# Altium schematic symbol library linear.SCHLIB: 656 symbols (part 1 of 3)
Pins are listed as number, name and electrical type; pins without a type are passive.

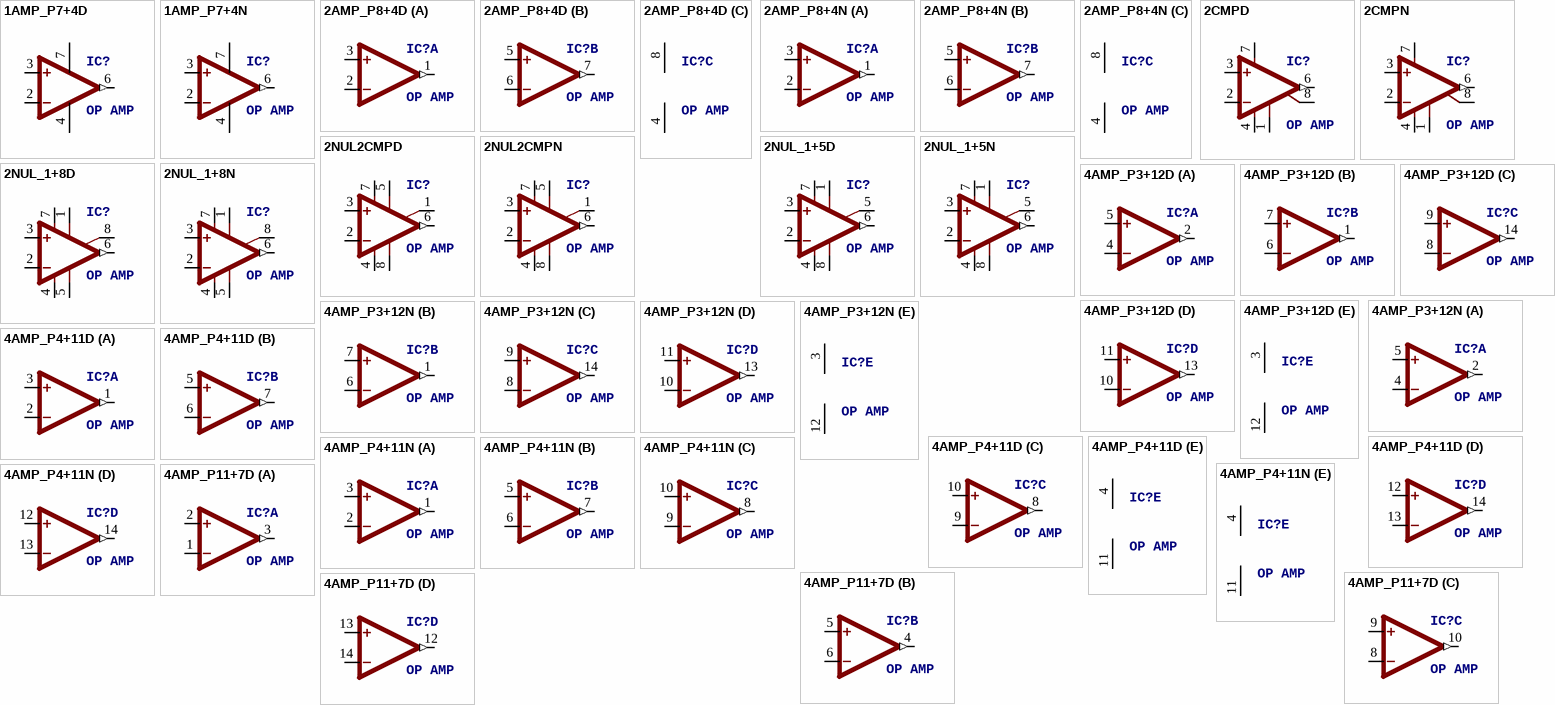
[diagram p0: symbols 1AMP_P7+4D to 4AMP_P11+7D]

## 1AMP_P7+4D
designator IC?, comment OP AMP
footprint SO08
pins: 2 -IN, 3 +IN, 4 V- (power), 6 OUT (out), 7 V+ (power)

## 1AMP_P7+4N
designator IC?, comment OP AMP
footprint DIL08
pins: 2 -IN, 3 +IN, 4 V- (power), 6 OUT (out), 7 V+ (power)

## 2AMP_P8+4D
designator IC?, comment OP AMP
footprint SO08
part A pins: 1 OUT (out), 2 -IN, 3 +IN
part B pins: 5 +IN, 6 -IN, 7 OUT (out)
part C pins: 4 V- (power), 8 V+ (power)

## 2AMP_P8+4N
designator IC?, comment OP AMP
footprint DIL08
part A pins: 1 OUT (out), 2 -IN, 3 +IN
part B pins: 5 +IN, 6 -IN, 7 OUT (out)
part C pins: 4 V- (power), 8 V+ (power)

## 2CMPD
designator IC?, comment OP AMP
footprint SO08
pins: 1 CMP1, 2 -IN, 3 +IN, 4 V- (power), 6 OUT (out), 7 V+ (power), 8 CMP2

## 2CMPN
designator IC?, comment OP AMP
footprint DIL08
pins: 1 CMP1, 2 -IN, 3 +IN, 4 V- (power), 6 OUT (out), 7 V+ (power), 8 CMP2

## 2NUL2CMPD
designator IC?, comment OP AMP
footprint SO08
pins: 1 ON/CMP, 2 -IN, 3 +IN, 4 V- (power), 5 ON, 6 OUT (out), 7 V+ (power), 8 CMP

## 2NUL2CMPN
designator IC?, comment OP AMP
footprint DIL08
pins: 1 ON/CMP, 2 -IN, 3 +IN, 4 V- (power), 5 ON, 6 OUT (out), 7 V+ (power), 8 CMP

## 2NUL_1+5D
designator IC?, comment OP AMP
footprint SO08
pins: 1 ON1, 2 -IN, 3 +IN, 4 V- (power), 5 ON2, 6 OUT (out), 7 V+ (power), 8 OPT

## 2NUL_1+5N
designator IC?, comment OP AMP
footprint DIL08
pins: 1 ON1, 2 -IN, 3 +IN, 4 V- (power), 5 ON2, 6 OUT (out), 7 V+ (power), 8 OPT

## 2NUL_1+8D
designator IC?, comment OP AMP
footprint SO08
pins: 1 ON1, 2 -IN, 3 +IN, 4 V- (power), 5 OPT, 6 OUT (out), 7 V+ (power), 8 ON2

## 2NUL_1+8N
designator IC?, comment OP AMP
footprint DIL08
pins: 1 ON1, 2 -IN, 3 +IN, 4 V- (power), 5 OPT, 6 OUT (out), 7 V+ (power), 8 ON2

## 4AMP_P3+12D
designator IC?, comment OP AMP
footprint SO14
part A pins: 2 OUT (out), 4 -IN, 5 +IN
part B pins: 1 OUT (out), 6 -IN, 7 +IN
part C pins: 8 -IN, 9 +IN, 14 OUT (out)
part D pins: 10 -IN, 11 +IN, 13 OUT (out)
part E pins: 3 V+ (power), 12 V- (power)

## 4AMP_P3+12N
designator IC?, comment OP AMP
footprint DIL14
part A pins: 2 OUT (out), 4 -IN, 5 +IN
part B pins: 1 OUT (out), 6 -IN, 7 +IN
part C pins: 8 -IN, 9 +IN, 14 OUT (out)
part D pins: 10 -IN, 11 +IN, 13 OUT (out)
part E pins: 3 V+ (power), 12 V- (power)

## 4AMP_P4+11D
designator IC?, comment OP AMP
footprint SO14
part A pins: 1 OUT (out), 2 -IN, 3 +IN
part B pins: 5 +IN, 6 -IN, 7 OUT (out)
part C pins: 8 OUT (out), 9 -IN, 10 +IN
part D pins: 12 +IN, 13 -IN, 14 OUT (out)
part E pins: 4 V+ (power), 11 V- (power)

## 4AMP_P4+11N
designator IC?, comment OP AMP
footprint DIL14
part A pins: 1 OUT (out), 2 -IN, 3 +IN
part B pins: 5 +IN, 6 -IN, 7 OUT (out)
part C pins: 8 OUT (out), 9 -IN, 10 +IN
part D pins: 12 +IN, 13 -IN, 14 OUT (out)
part E pins: 4 V+ (power), 11 V- (power)

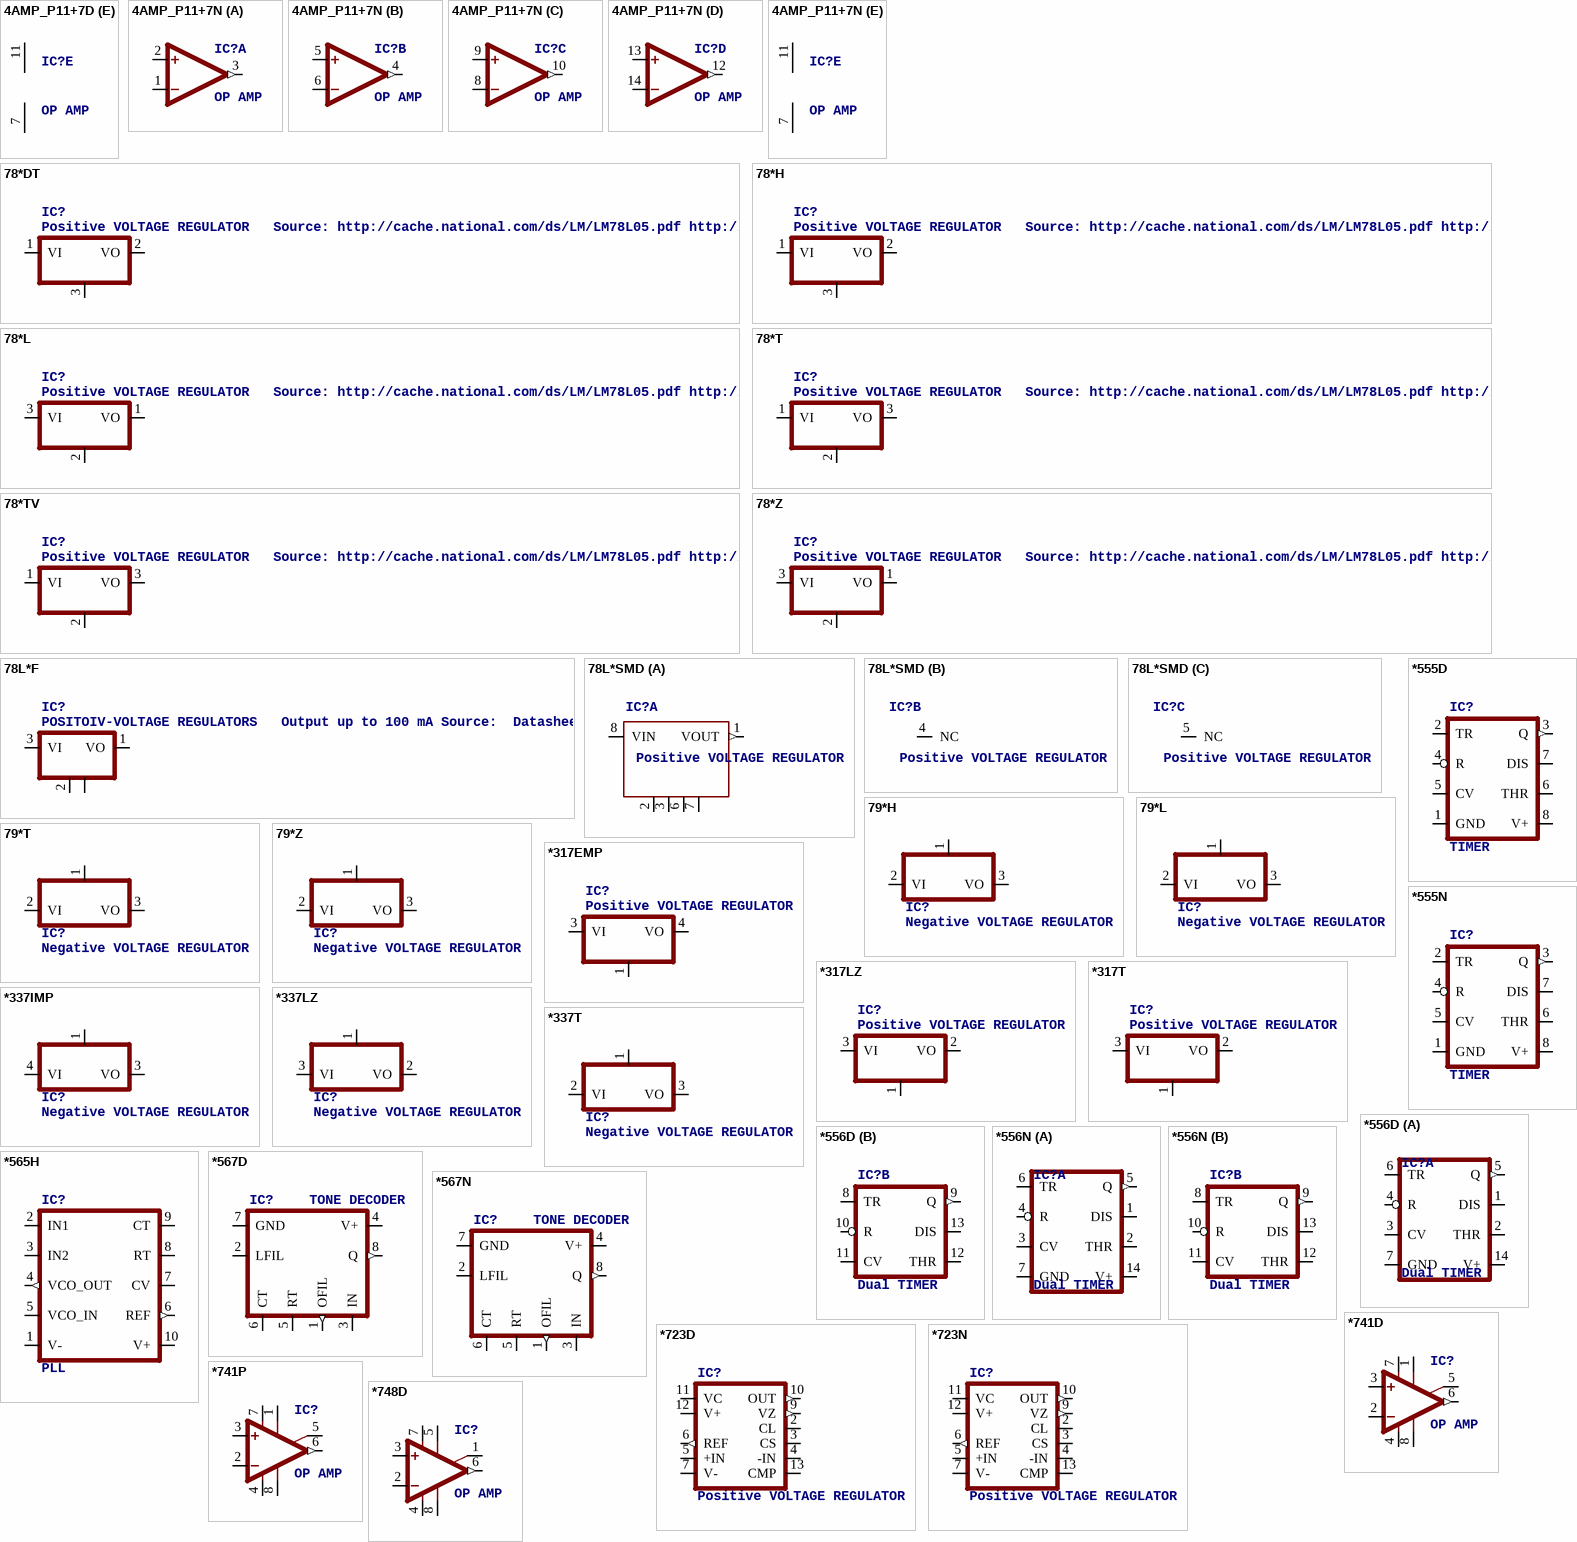
[diagram p1: symbols 4AMP_P11+7D to *748D]

## 4AMP_P11+7D
designator IC?, comment OP AMP
footprint SO14
part A pins: 1 -IN, 2 +IN, 3 OUT (out)
part B pins: 4 OUT (out), 5 +IN, 6 -IN
part C pins: 8 -IN, 9 +IN, 10 OUT (out)
part D pins: 12 OUT (out), 13 +IN, 14 -IN
part E pins: 7 V- (power), 11 V+ (power)

## 4AMP_P11+7N
designator IC?, comment OP AMP
footprint DIL14
part A pins: 1 -IN, 2 +IN, 3 OUT (out)
part B pins: 4 OUT (out), 5 +IN, 6 -IN
part C pins: 8 -IN, 9 +IN, 10 OUT (out)
part D pins: 12 OUT (out), 13 +IN, 14 -IN
part E pins: 7 V- (power), 11 V+ (power)

## 78*DT
designator IC?, comment Positive VOLTAGE REGULATOR   Source: http://cache.national.com/ds/LM/LM78L05.pdf http://www.fairchildsemi.com/ds/LM/LM7805.pdf
footprint TO252
pins: 1 VI, 2 VO, 3 GND

## 78*H
designator IC?, comment Positive VOLTAGE REGULATOR   Source: http://cache.national.com/ds/LM/LM78L05.pdf http://www.fairchildsemi.com/ds/LM/LM7805.pdf
footprint TO39
pins: 1 VI, 2 VO, 3 GND

## 78*L
designator IC?, comment Positive VOLTAGE REGULATOR   Source: http://cache.national.com/ds/LM/LM78L05.pdf http://www.fairchildsemi.com/ds/LM/LM7805.pdf
footprint TO92
pins: 1 VO, 2 GND, 3 VI

## 78*T
designator IC?, comment Positive VOLTAGE REGULATOR   Source: http://cache.national.com/ds/LM/LM78L05.pdf http://www.fairchildsemi.com/ds/LM/LM7805.pdf
footprint TO220H
pins: 1 VI, 2 GND, 3 VO

## 78*TV
designator IC?, comment Positive VOLTAGE REGULATOR   Source: http://cache.national.com/ds/LM/LM78L05.pdf http://www.fairchildsemi.com/ds/LM/LM7805.pdf
footprint TO220V
pins: 1 VI, 2 GND, 3 VO

## 78*Z
designator IC?, comment Positive VOLTAGE REGULATOR   Source: http://cache.national.com/ds/LM/LM78L05.pdf http://www.fairchildsemi.com/ds/LM/LM7805.pdf
footprint TO92
pins: 1 VO, 2 GND, 3 VI

## 78L*F
designator IC?, comment POSITOIV-VOLTAGE REGULATORS   Output up to 100 mA Source:  Datasheet
footprint SOT89
pins: 1 VO, 2 GND, 2@1 GND@1, 3 VI

## 78L*SMD
designator IC?, comment Positive VOLTAGE REGULATOR
footprint SO08
part A pins: 1 VOUT (out), 2 GND@1 (power), 3 GND@2 (power), 6 GND@3 (power), 7 GND@4 (power), 8 VIN
part B pins: 4 NC
part C pins: 5 NC

## 79*H
designator IC?, comment Negative VOLTAGE REGULATOR
footprint TO39
pins: 1 GND, 2 VI, 3 VO

## 79*L
designator IC?, comment Negative VOLTAGE REGULATOR
footprint TO92
pins: 1 GND, 2 VI, 3 VO

## 79*T
designator IC?, comment Negative VOLTAGE REGULATOR
footprint TO220H
pins: 1 GND, 2 VI, 3 VO

## 79*Z
designator IC?, comment Negative VOLTAGE REGULATOR
footprint TO92
pins: 1 GND, 2 VI, 3 VO

## *317EMP
designator IC?, comment Positive VOLTAGE REGULATOR
footprint SOT223
pins: 1 ADJ, 3 VI, 4 VO

## *317LZ
designator IC?, comment Positive VOLTAGE REGULATOR
footprint TO92
pins: 1 ADJ, 2 VO, 3 VI

## *317T
designator IC?, comment Positive VOLTAGE REGULATOR
footprint TO220H
pins: 1 ADJ, 2 VO, 3 VI

## *337IMP
designator IC?, comment Negative VOLTAGE REGULATOR
footprint SOT223
pins: 1 ADJ, 3 VO, 4 VI

## *337LZ
designator IC?, comment Negative VOLTAGE REGULATOR
footprint TO92
pins: 1 ADJ, 2 VO, 3 VI

## *337T
designator IC?, comment Negative VOLTAGE REGULATOR
footprint TO220H
pins: 1 ADJ, 2 VI, 3 VO

## *555D
designator IC?, comment TIMER
footprint SO08
pins: 1 GND (power), 2 TR, 3 Q (out), 4 R, 5 CV, 6 THR, 7 DIS, 8 V+ (power)

## *555N
designator IC?, comment TIMER
footprint DIL08
pins: 1 GND (power), 2 TR, 3 Q (out), 4 R, 5 CV, 6 THR, 7 DIS, 8 V+ (power)

## *556D
designator IC?, comment Dual TIMER
footprint SO14
part A pins: 1 DIS, 2 THR, 3 CV, 4 R, 5 Q (out), 6 TR, 7 GND (power), 14 V+ (power)
part B pins: 8 TR, 9 Q (out), 10 R, 11 CV, 12 THR, 13 DIS

## *556N
designator IC?, comment Dual TIMER
footprint DIL14
part A pins: 1 DIS, 2 THR, 3 CV, 4 R, 5 Q (out), 6 TR, 7 GND (power), 14 V+ (power)
part B pins: 8 TR, 9 Q (out), 10 R, 11 CV, 12 THR, 13 DIS

## *565H
designator IC?, comment PLL
footprint TO100
pins: 1 V- (power), 2 IN1, 3 IN2, 4 VCO_OUT (out), 5 VCO_IN, 6 REF (out), 7 CV, 8 RT, 9 CT, 10 V+ (power)

## *567D
designator IC?, comment TONE DECODER
footprint SO08
pins: 1 OFIL (out), 2 LFIL, 3 IN, 4 V+ (power), 5 RT, 6 CT, 7 GND (power), 8 Q (out)

## *567N
designator IC?, comment TONE DECODER
footprint DIL08
pins: 1 OFIL (out), 2 LFIL, 3 IN, 4 V+ (power), 5 RT, 6 CT, 7 GND (power), 8 Q (out)

## *723D
designator IC?, comment Positive VOLTAGE REGULATOR
footprint SO14
pins: 2 CL, 3 CS, 4 -IN, 5 +IN, 6 REF (out), 7 V-, 9 VZ (out), 10 OUT (out), 11 VC, 12 V+, 13 CMP

## *723N
designator IC?, comment Positive VOLTAGE REGULATOR
footprint DIL14
pins: 2 CL, 3 CS, 4 -IN, 5 +IN, 6 REF (out), 7 V-, 9 VZ (out), 10 OUT (out), 11 VC, 12 V+, 13 CMP

## *741D
designator IC?, comment OP AMP
footprint SO08
pins: 1 ON1, 2 -IN, 3 +IN, 4 V- (power), 5 ON2, 6 OUT (out), 7 V+ (power), 8 OPT

## *741P
designator IC?, comment OP AMP
footprint DIL08
pins: 1 ON1, 2 -IN, 3 +IN, 4 V- (power), 5 ON2, 6 OUT (out), 7 V+ (power), 8 OPT

## *748D
designator IC?, comment OP AMP
footprint SO08
pins: 1 ON/CMP, 2 -IN, 3 +IN, 4 V- (power), 5 ON, 6 OUT (out), 7 V+ (power), 8 CMP

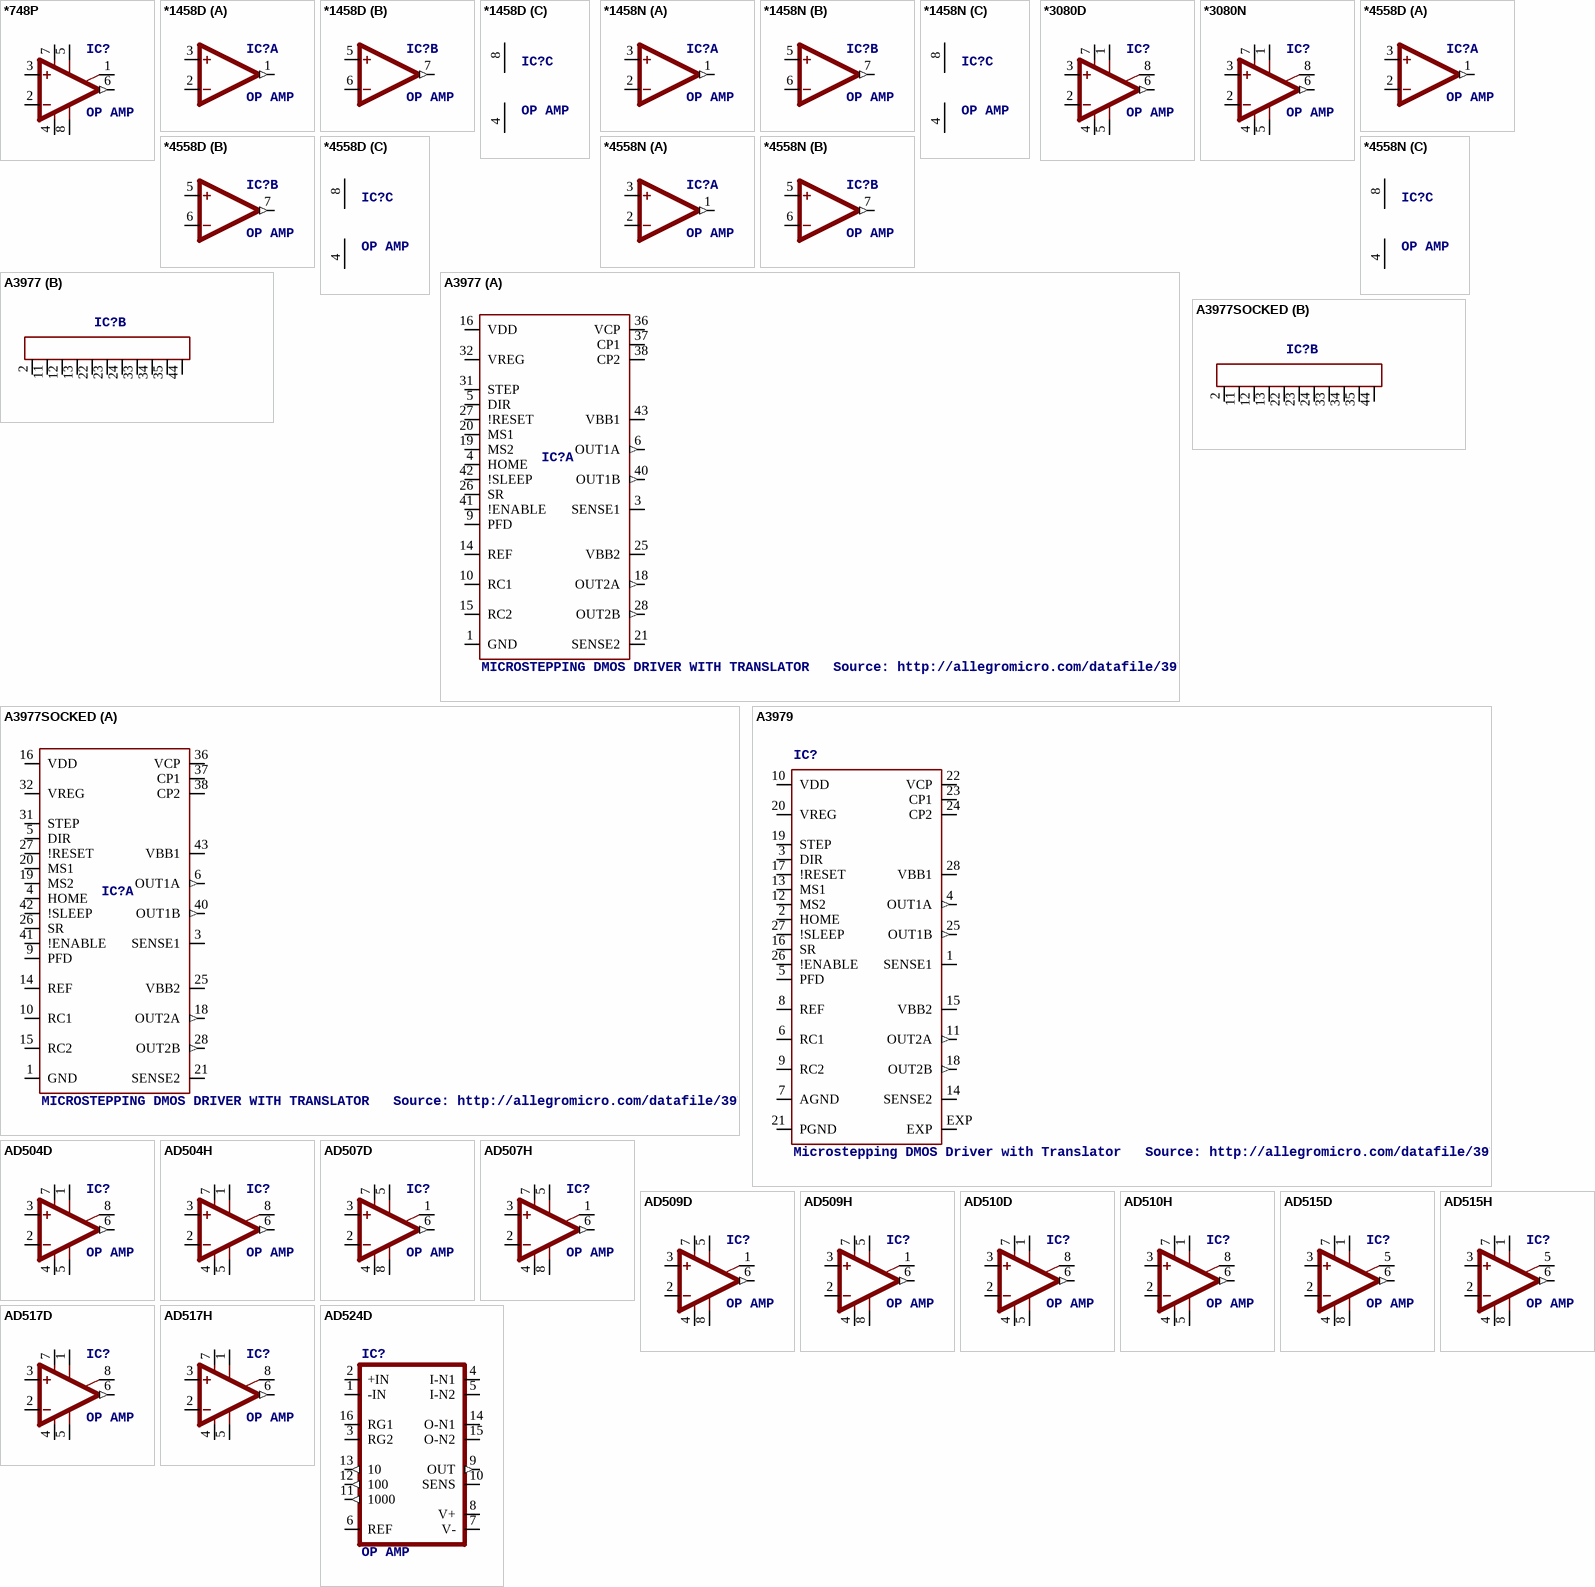
[diagram p2: symbols *748P to AD524D]

## *748P
designator IC?, comment OP AMP
footprint DIL08
pins: 1 ON/CMP, 2 -IN, 3 +IN, 4 V- (power), 5 ON, 6 OUT (out), 7 V+ (power), 8 CMP

## *1458D
designator IC?, comment OP AMP
footprint SO08
part A pins: 1 OUT (out), 2 -IN, 3 +IN
part B pins: 5 +IN, 6 -IN, 7 OUT (out)
part C pins: 4 V- (power), 8 V+ (power)

## *1458N
designator IC?, comment OP AMP
footprint DIL08
part A pins: 1 OUT (out), 2 -IN, 3 +IN
part B pins: 5 +IN, 6 -IN, 7 OUT (out)
part C pins: 4 V- (power), 8 V+ (power)

## *3080D
designator IC?, comment OP AMP
footprint SO08
pins: 1 ON1, 2 -IN, 3 +IN, 4 V- (power), 5 OPT, 6 OUT (out), 7 V+ (power), 8 ON2

## *3080N
designator IC?, comment OP AMP
footprint DIL08
pins: 1 ON1, 2 -IN, 3 +IN, 4 V- (power), 5 OPT, 6 OUT (out), 7 V+ (power), 8 ON2

## *4558D
designator IC?, comment OP AMP
footprint SO08
part A pins: 1 OUT (out), 2 -IN, 3 +IN
part B pins: 5 +IN, 6 -IN, 7 OUT (out)
part C pins: 4 V- (power), 8 V+ (power)

## *4558N
designator IC?, comment OP AMP
footprint DIL08
part A pins: 1 OUT (out), 2 -IN, 3 +IN
part B pins: 5 +IN, 6 -IN, 7 OUT (out)
part C pins: 4 V- (power), 8 V+ (power)

## A3977
designator IC?, comment MICROSTEPPING DMOS DRIVER WITH TRANSLATOR   Source: http://allegromicro.com/datafile/3977.pdf
footprint PLCC44
part A pins: 1 GND (power), 3 SENSE1, 4 HOME, 5 DIR, 6 OUT1A (out), 9 PFD, 10 RC1, 14 REF, 15 RC2, 16 VDD (power), 18 OUT2A (out), 19 MS2, 20 MS1, 21 SENSE2, 25 VBB2 (power), 26 SR, 27 !RESET, 28 OUT2B (out), 31 STEP, 32 VREG (power), 36 VCP, 37 CP1, 38 CP2, 40 OUT1B (out), 41 !ENABLE, 42 !SLEEP, 43 VBB1 (power)
part B pins: 2 GND@1 (power), 11 GND@2 (power), 12 GND@3 (power), 13 GND@4 (power), 22 GND@5 (power), 23 GND@6 (power), 24 GND@7 (power), 33 GND@8 (power), 34 GND@9 (power), 35 GND@10 (power), 44 GND@11 (power)

## A3977SOCKED
designator IC?, comment MICROSTEPPING DMOS DRIVER WITH TRANSLATOR   Source: http://allegromicro.com/datafile/3977.pdf
footprint PLCC-S44
part A pins: 1 GND (power), 3 SENSE1, 4 HOME, 5 DIR, 6 OUT1A (out), 9 PFD, 10 RC1, 14 REF, 15 RC2, 16 VDD (power), 18 OUT2A (out), 19 MS2, 20 MS1, 21 SENSE2, 25 VBB2 (power), 26 SR, 27 !RESET, 28 OUT2B (out), 31 STEP, 32 VREG (power), 36 VCP, 37 CP1, 38 CP2, 40 OUT1B (out), 41 !ENABLE, 42 !SLEEP, 43 VBB1 (power)
part B pins: 2 GND@1 (power), 11 GND@2 (power), 12 GND@3 (power), 13 GND@4 (power), 22 GND@5 (power), 23 GND@6 (power), 24 GND@7 (power), 33 GND@8 (power), 34 GND@9 (power), 35 GND@10 (power), 44 GND@11 (power)

## A3979
designator IC?, comment Microstepping DMOS Driver with Translator   Source: http://allegromicro.com/datafile/3979.pdf
footprint TSSOP28
pins: 1 SENSE1, 2 HOME, 3 DIR, 4 OUT1A (out), 5 PFD, 6 RC1, 7 AGND (power), 8 REF, 9 RC2, 10 VDD (power), 11 OUT2A (out), 12 MS2, 13 MS1, 14 SENSE2, 15 VBB2 (power), 16 SR, 17 !RESET, 18 OUT2B (out), 19 STEP, 20 VREG (power), 21 PGND (power), 22 VCP, 23 CP1, 24 CP2, 25 OUT1B (out), 26 !ENABLE, 27 !SLEEP, 28 VBB1 (power), EXP (power)

## AD504D
designator IC?, comment OP AMP
footprint SO08
pins: 1 ON1, 2 -IN, 3 +IN, 4 V- (power), 5 OPT, 6 OUT (out), 7 V+ (power), 8 ON2

## AD504H
designator IC?, comment OP AMP
footprint TO99
pins: 1 ON1, 2 -IN, 3 +IN, 4 V- (power), 5 OPT, 6 OUT (out), 7 V+ (power), 8 ON2

## AD507D
designator IC?, comment OP AMP
footprint SO08
pins: 1 ON/CMP, 2 -IN, 3 +IN, 4 V- (power), 5 ON, 6 OUT (out), 7 V+ (power), 8 CMP

## AD507H
designator IC?, comment OP AMP
footprint TO99
pins: 1 ON/CMP, 2 -IN, 3 +IN, 4 V- (power), 5 ON, 6 OUT (out), 7 V+ (power), 8 CMP

## AD509D
designator IC?, comment OP AMP
footprint SO08
pins: 1 ON/CMP, 2 -IN, 3 +IN, 4 V- (power), 5 ON, 6 OUT (out), 7 V+ (power), 8 CMP

## AD509H
designator IC?, comment OP AMP
footprint TO99
pins: 1 ON/CMP, 2 -IN, 3 +IN, 4 V- (power), 5 ON, 6 OUT (out), 7 V+ (power), 8 CMP

## AD510D
designator IC?, comment OP AMP
footprint SO08
pins: 1 ON1, 2 -IN, 3 +IN, 4 V- (power), 5 OPT, 6 OUT (out), 7 V+ (power), 8 ON2

## AD510H
designator IC?, comment OP AMP
footprint TO99
pins: 1 ON1, 2 -IN, 3 +IN, 4 V- (power), 5 OPT, 6 OUT (out), 7 V+ (power), 8 ON2

## AD515D
designator IC?, comment OP AMP
footprint SO08
pins: 1 ON1, 2 -IN, 3 +IN, 4 V- (power), 5 ON2, 6 OUT (out), 7 V+ (power), 8 OPT

## AD515H
designator IC?, comment OP AMP
footprint TO99
pins: 1 ON1, 2 -IN, 3 +IN, 4 V- (power), 5 ON2, 6 OUT (out), 7 V+ (power), 8 OPT

## AD517D
designator IC?, comment OP AMP
footprint SO08
pins: 1 ON1, 2 -IN, 3 +IN, 4 V- (power), 5 OPT, 6 OUT (out), 7 V+ (power), 8 ON2

## AD517H
designator IC?, comment OP AMP
footprint TO99
pins: 1 ON1, 2 -IN, 3 +IN, 4 V- (power), 5 OPT, 6 OUT (out), 7 V+ (power), 8 ON2

## AD524D
designator IC?, comment OP AMP
footprint SO16
pins: 1 -IN, 2 +IN, 3 RG2, 4 I-N1, 5 I-N2, 6 REF, 7 V- (power), 8 V+ (power), 9 OUT (out), 10 SENS, 11 1000 (out), 12 100 (out), 13 10 (out), 14 O-N1, 15 O-N2, 16 RG1

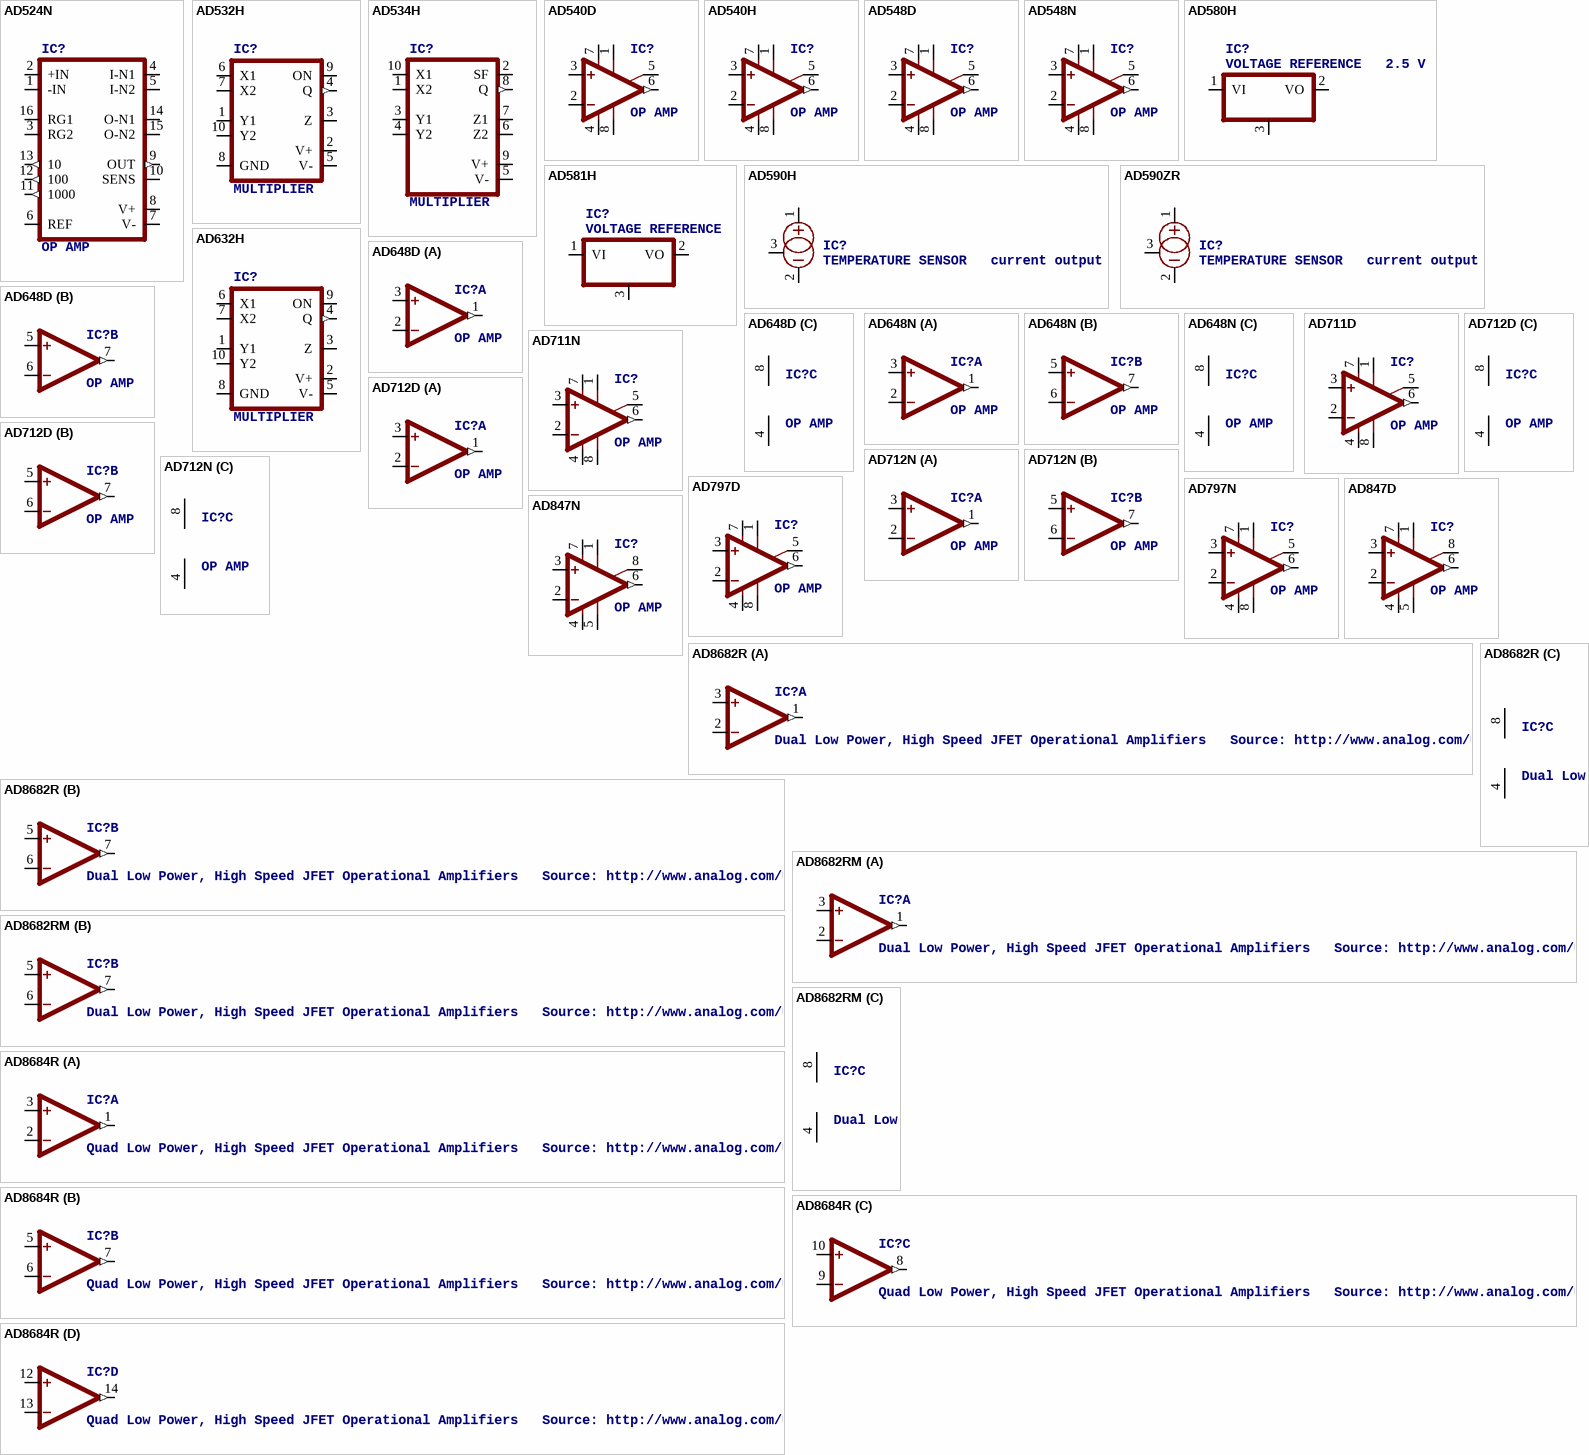
[diagram p3: symbols AD524N to AD8684R]

## AD524N
designator IC?, comment OP AMP
footprint DIL16
pins: 1 -IN, 2 +IN, 3 RG2, 4 I-N1, 5 I-N2, 6 REF, 7 V- (power), 8 V+ (power), 9 OUT (out), 10 SENS, 11 1000 (out), 12 100 (out), 13 10 (out), 14 O-N1, 15 O-N2, 16 RG1

## AD532H
designator IC?, comment MULTIPLIER
footprint TO100
pins: 1 Y1, 2 V+ (power), 3 Z, 4 Q (out), 5 V- (power), 6 X1, 7 X2, 8 GND (power), 9 ON, 10 Y2

## AD534H
designator IC?, comment MULTIPLIER
footprint TO100
pins: 1 X2, 2 SF, 3 Y1, 4 Y2, 5 V- (power), 6 Z2, 7 Z1, 8 Q (out), 9 V+ (power), 10 X1

## AD540D
designator IC?, comment OP AMP
footprint SO08
pins: 1 ON1, 2 -IN, 3 +IN, 4 V- (power), 5 ON2, 6 OUT (out), 7 V+ (power), 8 OPT

## AD540H
designator IC?, comment OP AMP
footprint TO99
pins: 1 ON1, 2 -IN, 3 +IN, 4 V- (power), 5 ON2, 6 OUT (out), 7 V+ (power), 8 OPT

## AD548D
designator IC?, comment OP AMP
footprint SO08
pins: 1 ON1, 2 -IN, 3 +IN, 4 V- (power), 5 ON2, 6 OUT (out), 7 V+ (power), 8 OPT

## AD548N
designator IC?, comment OP AMP
footprint DIL08
pins: 1 ON1, 2 -IN, 3 +IN, 4 V- (power), 5 ON2, 6 OUT (out), 7 V+ (power), 8 OPT

## AD580H
designator IC?, comment VOLTAGE REFERENCE   2.5 V
footprint TO39
pins: 1 VI, 2 VO, 3 GND

## AD581H
designator IC?, comment VOLTAGE REFERENCE
footprint TO39
pins: 1 VI, 2 VO, 3 GND

## AD590H
designator IC?, comment TEMPERATURE SENSOR   current output
footprint TO18
pins: 1 +, 2 -, 3 CAN

## AD590ZR
designator IC?, comment TEMPERATURE SENSOR   current output
footprint TO92
pins: 1 +, 2 -, 3 CAN

## AD632H
designator IC?, comment MULTIPLIER
footprint TO100
pins: 1 Y1, 2 V+ (power), 3 Z, 4 Q (out), 5 V- (power), 6 X1, 7 X2, 8 GND (power), 9 ON, 10 Y2

## AD648D
designator IC?, comment OP AMP
footprint SO08
part A pins: 1 OUT (out), 2 -IN, 3 +IN
part B pins: 5 +IN, 6 -IN, 7 OUT (out)
part C pins: 4 V- (power), 8 V+ (power)

## AD648N
designator IC?, comment OP AMP
footprint DIL08
part A pins: 1 OUT (out), 2 -IN, 3 +IN
part B pins: 5 +IN, 6 -IN, 7 OUT (out)
part C pins: 4 V- (power), 8 V+ (power)

## AD711D
designator IC?, comment OP AMP
footprint SO08
pins: 1 ON1, 2 -IN, 3 +IN, 4 V- (power), 5 ON2, 6 OUT (out), 7 V+ (power), 8 OPT

## AD711N
designator IC?, comment OP AMP
footprint DIL08
pins: 1 ON1, 2 -IN, 3 +IN, 4 V- (power), 5 ON2, 6 OUT (out), 7 V+ (power), 8 OPT

## AD712D
designator IC?, comment OP AMP
footprint SO08
part A pins: 1 OUT (out), 2 -IN, 3 +IN
part B pins: 5 +IN, 6 -IN, 7 OUT (out)
part C pins: 4 V- (power), 8 V+ (power)

## AD712N
designator IC?, comment OP AMP
footprint DIL08
part A pins: 1 OUT (out), 2 -IN, 3 +IN
part B pins: 5 +IN, 6 -IN, 7 OUT (out)
part C pins: 4 V- (power), 8 V+ (power)

## AD797D
designator IC?, comment OP AMP
footprint SO08
pins: 1 ON1, 2 -IN, 3 +IN, 4 V- (power), 5 ON2, 6 OUT (out), 7 V+ (power), 8 OPT

## AD797N
designator IC?, comment OP AMP
footprint DIL08
pins: 1 ON1, 2 -IN, 3 +IN, 4 V- (power), 5 ON2, 6 OUT (out), 7 V+ (power), 8 OPT

## AD847D
designator IC?, comment OP AMP
footprint SO08
pins: 1 ON1, 2 -IN, 3 +IN, 4 V- (power), 5 OPT, 6 OUT (out), 7 V+ (power), 8 ON2

## AD847N
designator IC?, comment OP AMP
footprint DIL08
pins: 1 ON1, 2 -IN, 3 +IN, 4 V- (power), 5 OPT, 6 OUT (out), 7 V+ (power), 8 ON2

## AD8682R
designator IC?, comment Dual Low Power, High Speed JFET Operational Amplifiers   Source: http://www.analog.com/UploadedFiles/Data_Sheets/AD8682_8684.pdf
footprint SO08
part A pins: 1 OUT (out), 2 -IN, 3 +IN
part B pins: 5 +IN, 6 -IN, 7 OUT (out)
part C pins: 4 V- (power), 8 V+ (power)

## AD8682RM
designator IC?, comment Dual Low Power, High Speed JFET Operational Amplifiers   Source: http://www.analog.com/UploadedFiles/Data_Sheets/AD8682_8684.pdf
footprint MSOP08
part A pins: 1 OUT (out), 2 -IN, 3 +IN
part B pins: 5 +IN, 6 -IN, 7 OUT (out)
part C pins: 4 V- (power), 8 V+ (power)

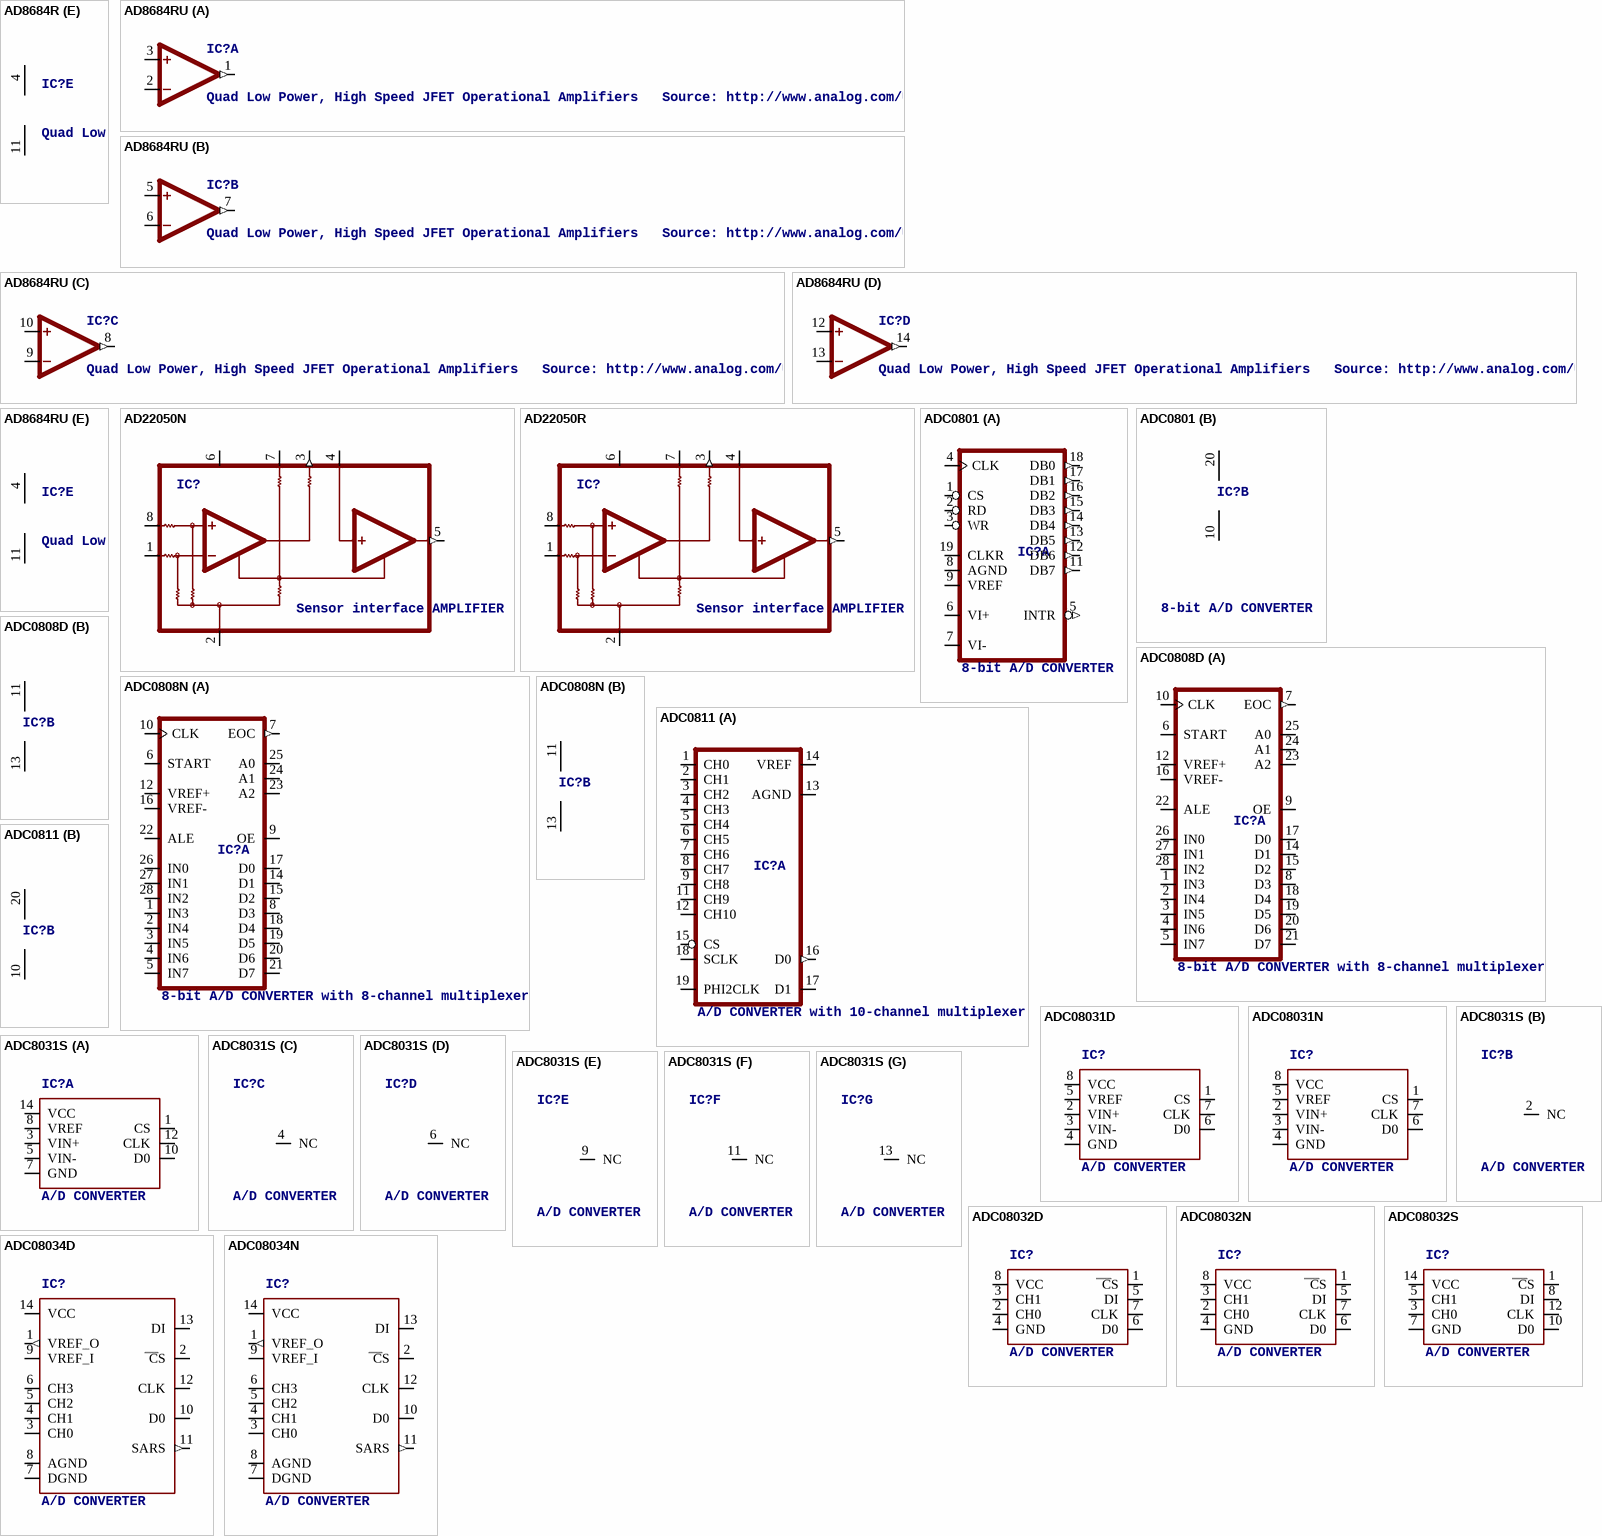
[diagram p4: symbols AD8684R to ADC08034N]

## AD8684R
designator IC?, comment Quad Low Power, High Speed JFET Operational Amplifiers   Source: http://www.analog.com/UploadedFiles/Data_Sheets/AD8682_8684.pdf
footprint SO14
part A pins: 1 OUT (out), 2 -IN, 3 +IN
part B pins: 5 +IN, 6 -IN, 7 OUT (out)
part C pins: 8 OUT (out), 9 -IN, 10 +IN
part D pins: 12 +IN, 13 -IN, 14 OUT (out)
part E pins: 4 V+ (power), 11 V- (power)

## AD8684RU
designator IC?, comment Quad Low Power, High Speed JFET Operational Amplifiers   Source: http://www.analog.com/UploadedFiles/Data_Sheets/AD8682_8684.pdf
footprint TSSOP14
part A pins: 1 OUT (out), 2 -IN, 3 +IN
part B pins: 5 +IN, 6 -IN, 7 OUT (out)
part C pins: 8 OUT (out), 9 -IN, 10 +IN
part D pins: 12 +IN, 13 -IN, 14 OUT (out)
part E pins: 4 V+ (power), 11 V- (power)

## AD22050N
designator IC?, comment Sensor interface AMPLIFIER
footprint DIL08
pins: 1 -IN, 2 GND (power), 3 A1 (out), 4 A2, 5 OUT (out), 6 +VS (power), 7 OFS, 8 +IN

## AD22050R
designator IC?, comment Sensor interface AMPLIFIER
footprint SO08
pins: 1 -IN, 2 GND (power), 3 A1 (out), 4 A2, 5 OUT (out), 6 +VS (power), 7 OFS, 8 +IN

## ADC0801
designator IC?, comment 8-bit A/D CONVERTER
footprint DIL20
part A pins: 1 CS, 2 RD, 3 WR, 4 CLK, 5 INTR (out), 6 VI+, 7 VI-, 8 AGND, 9 VREF, 11 DB7 (out), 12 DB6 (out), 13 DB5 (out), 14 DB4 (out), 15 DB3 (out), 16 DB2 (out), 17 DB1 (out), 18 DB0 (out), 19 CLKR
part B pins: 10 GND (power), 20 VCC (power)

## ADC0808D
designator IC?, comment 8-bit A/D CONVERTER with 8-channel multiplexer
footprint SO28W
part A pins: 1 IN3, 2 IN4, 3 IN5, 4 IN6, 5 IN7, 6 START, 7 EOC (out), 8 D3 (hiz), 9 OE, 10 CLK, 12 VREF+, 14 D1 (hiz), 15 D2 (hiz), 16 VREF-, 17 D0 (hiz), 18 D4 (hiz), 19 D5 (hiz), 20 D6 (hiz), 21 D7 (hiz), 22 ALE, 23 A2, 24 A1, 25 A0, 26 IN0, 27 IN1, 28 IN2
part B pins: 11 VCC (power), 13 GND (power)

## ADC0808N
designator IC?, comment 8-bit A/D CONVERTER with 8-channel multiplexer
footprint DIL28-6
part A pins: 1 IN3, 2 IN4, 3 IN5, 4 IN6, 5 IN7, 6 START, 7 EOC (out), 8 D3 (hiz), 9 OE, 10 CLK, 12 VREF+, 14 D1 (hiz), 15 D2 (hiz), 16 VREF-, 17 D0 (hiz), 18 D4 (hiz), 19 D5 (hiz), 20 D6 (hiz), 21 D7 (hiz), 22 ALE, 23 A2, 24 A1, 25 A0, 26 IN0, 27 IN1, 28 IN2
part B pins: 11 VCC (power), 13 GND (power)

## ADC0811
designator IC?, comment A/D CONVERTER with 10-channel multiplexer
footprint DIL20
part A pins: 1 CH0, 2 CH1, 3 CH2, 4 CH3, 5 CH4, 6 CH5, 7 CH6, 8 CH7, 9 CH8, 11 CH9, 12 CH10, 13 AGND, 14 VREF, 15 CS, 16 D0 (out), 17 D1, 18 SCLK, 19 PHI2CLK
part B pins: 10 GND (power), 20 VCC (power)

## ADC08031D
designator IC?, comment A/D CONVERTER
footprint SO08
pins: 1 CS, 2 VIN+, 3 VIN-, 4 GND (power), 5 VREF, 6 D0 (hiz), 7 CLK, 8 VCC (power)

## ADC08031N
designator IC?, comment A/D CONVERTER
footprint DIL08
pins: 1 CS, 2 VIN+, 3 VIN-, 4 GND (power), 5 VREF, 6 D0 (hiz), 7 CLK, 8 VCC (power)

## ADC8031S
designator IC?, comment A/D CONVERTER
footprint DIL14
part A pins: 1 CS, 3 VIN+, 5 VIN-, 7 GND (power), 8 VREF, 10 D0 (hiz), 12 CLK, 14 VCC (power)
part B pins: 2 NC
part C pins: 4 NC
part D pins: 6 NC
part E pins: 9 NC
part F pins: 11 NC
part G pins: 13 NC

## ADC08032D
designator IC?, comment A/D CONVERTER
footprint SO08
pins: 1 CS, 2 CH0, 3 CH1, 4 GND (power), 5 DI, 6 D0 (hiz), 7 CLK, 8 VCC (power)

## ADC08032N
designator IC?, comment A/D CONVERTER
footprint DIL08
pins: 1 CS, 2 CH0, 3 CH1, 4 GND (power), 5 DI, 6 D0 (hiz), 7 CLK, 8 VCC (power)

## ADC08032S
designator IC?, comment A/D CONVERTER
footprint SO14W
pins: 1 CS, 3 CH0, 5 CH1, 7 GND (power), 8 DI, 10 D0 (hiz), 12 CLK, 14 VCC (power)

## ADC08034D
designator IC?, comment A/D CONVERTER
footprint SO14
pins: 1 VREF_O (out), 2 CS, 3 CH0, 4 CH1, 5 CH2, 6 CH3, 7 DGND (power), 8 AGND (power), 9 VREF_I, 10 D0 (hiz), 11 SARS (out), 12 CLK, 13 DI, 14 VCC (power)

## ADC08034N
designator IC?, comment A/D CONVERTER
footprint DIL14
pins: 1 VREF_O (out), 2 CS, 3 CH0, 4 CH1, 5 CH2, 6 CH3, 7 DGND (power), 8 AGND (power), 9 VREF_I, 10 D0 (hiz), 11 SARS (out), 12 CLK, 13 DI, 14 VCC (power)

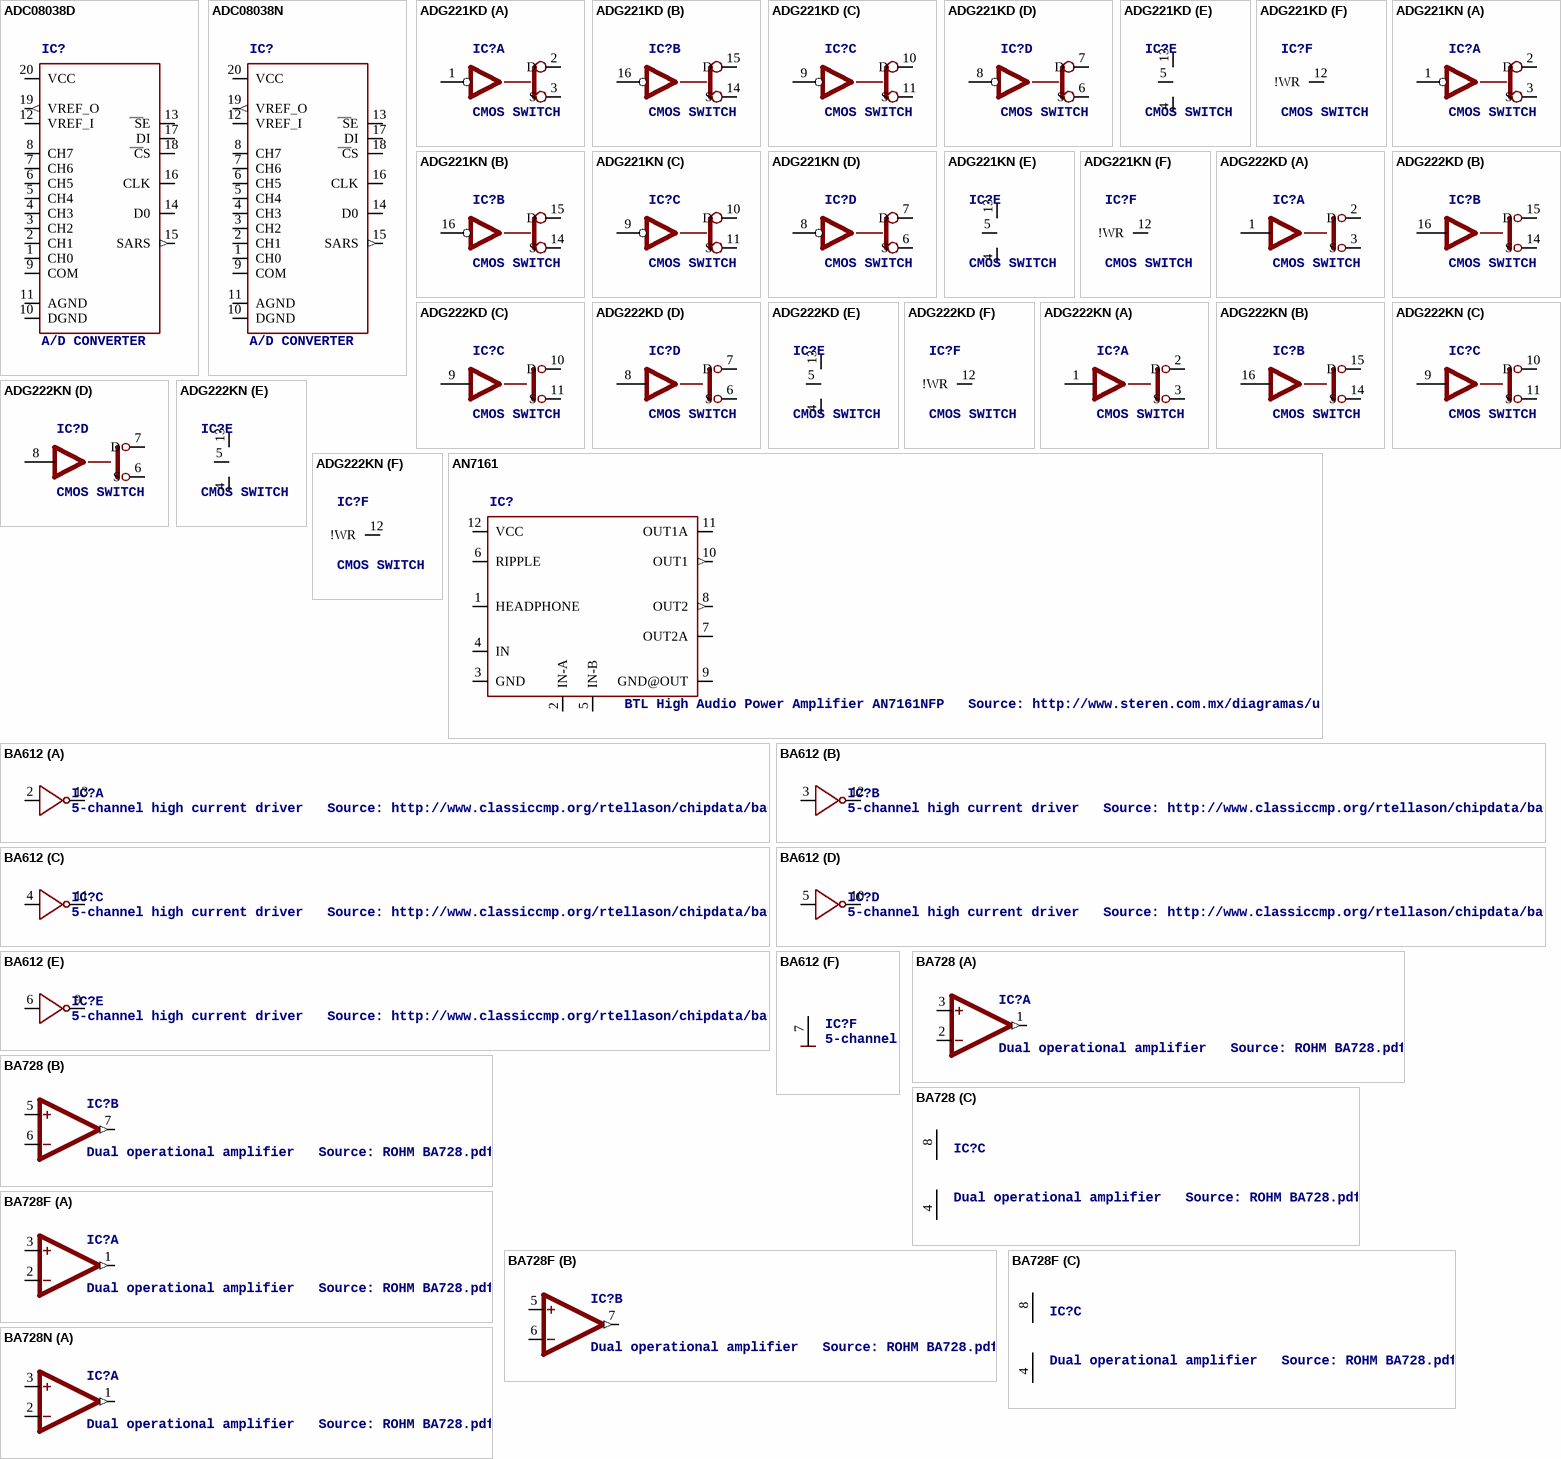
[diagram p5: symbols ADC08038D to BA728N]

## ADC08038D
designator IC?, comment A/D CONVERTER
footprint SO20W
pins: 1 CH0, 2 CH1, 3 CH2, 4 CH3, 5 CH4, 6 CH5, 7 CH6, 8 CH7, 9 COM, 10 DGND (power), 11 AGND (power), 12 VREF_I, 13 SE, 14 D0 (hiz), 15 SARS (out), 16 CLK, 17 DI, 18 CS, 19 VREF_O (out), 20 VCC (power)

## ADC08038N
designator IC?, comment A/D CONVERTER
footprint DIL20
pins: 1 CH0, 2 CH1, 3 CH2, 4 CH3, 5 CH4, 6 CH5, 7 CH6, 8 CH7, 9 COM, 10 DGND (power), 11 AGND (power), 12 VREF_I, 13 SE, 14 D0 (hiz), 15 SARS (out), 16 CLK, 17 DI, 18 CS, 19 VREF_O (out), 20 VCC (power)

## ADG221KD
designator IC?, comment CMOS SWITCH
footprint SO16
part A pins: 1 IN, 2 D, 3 S
part B pins: 14 S, 15 D, 16 IN
part C pins: 9 IN, 10 D, 11 S
part D pins: 6 S, 7 D, 8 IN
part E pins: 4 V- (power), 5 GND (power), 13 V+ (power)
part F pins: 12 !WR

## ADG221KN
designator IC?, comment CMOS SWITCH
footprint DIL16
part A pins: 1 IN, 2 D, 3 S
part B pins: 14 S, 15 D, 16 IN
part C pins: 9 IN, 10 D, 11 S
part D pins: 6 S, 7 D, 8 IN
part E pins: 4 V- (power), 5 GND (power), 13 V+ (power)
part F pins: 12 !WR

## ADG222KD
designator IC?, comment CMOS SWITCH
footprint SO16
part A pins: 1 IN, 2 D, 3 S
part B pins: 14 S, 15 D, 16 IN
part C pins: 9 IN, 10 D, 11 S
part D pins: 6 S, 7 D, 8 IN
part E pins: 4 V- (power), 5 GND (power), 13 V+ (power)
part F pins: 12 !WR

## ADG222KN
designator IC?, comment CMOS SWITCH
footprint DIL16
part A pins: 1 IN, 2 D, 3 S
part B pins: 14 S, 15 D, 16 IN
part C pins: 9 IN, 10 D, 11 S
part D pins: 6 S, 7 D, 8 IN
part E pins: 4 V- (power), 5 GND (power), 13 V+ (power)
part F pins: 12 !WR

## AN7161
designator IC?, comment BTL High Audio Power Amplifier AN7161NFP   Source: http://www.steren.com.mx/diagramas/uploads/an7161.pdf
footprint SIP-12
pins: 1 HEADPHONE, 2 IN-A, 3 GND (power), 4 IN, 5 IN-B, 6 RIPPLE, 7 OUT2A, 8 OUT2 (out), 9 GND@OUT (power), 10 OUT1 (out), 11 OUT1A, 12 VCC (power)

## BA612
designator IC?, comment 5-channel high current driver   Source: http://www.classiccmp.org/rtellason/chipdata/ba612.pdf
footprint DIL14
part A pins: 2 I, 13 O
part B pins: 3 I, 12 O
part C pins: 4 I, 11 O
part D pins: 5 I, 10 O
part E pins: 6 I, 9 O
part F pins: 7 O

## BA728
designator IC?, comment Dual operational amplifier   Source: ROHM BA728.pdf
footprint DIL08
part A pins: 1 OUT (out), 2 -IN, 3 +IN
part B pins: 5 +IN, 6 -IN, 7 OUT (out)
part C pins: 4 V- (power), 8 V+ (power)

## BA728F
designator IC?, comment Dual operational amplifier   Source: ROHM BA728.pdf
footprint SO08
part A pins: 1 OUT (out), 2 -IN, 3 +IN
part B pins: 5 +IN, 6 -IN, 7 OUT (out)
part C pins: 4 V- (power), 8 V+ (power)

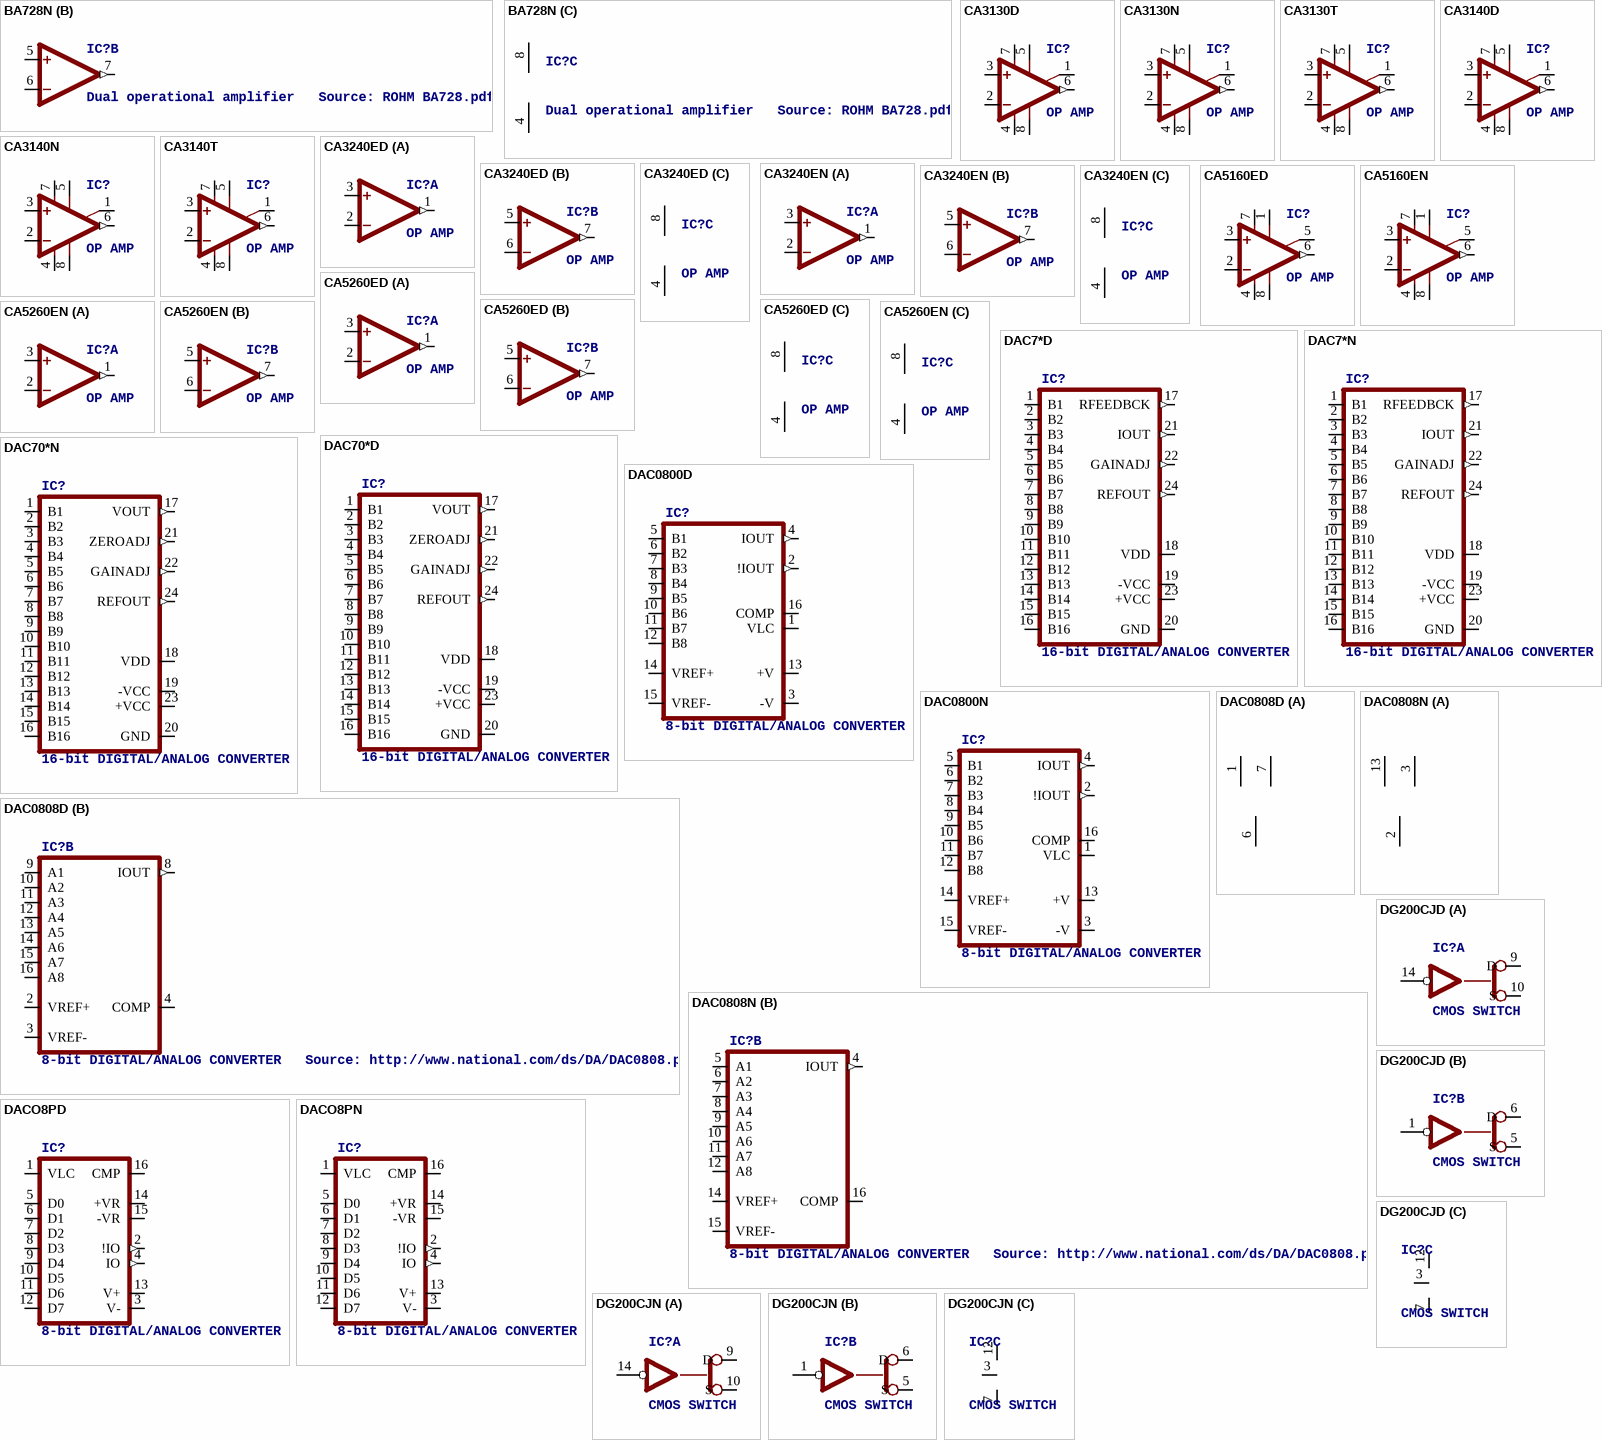
[diagram p6: symbols BA728N to DG200CJN]

## BA728N
designator IC?, comment Dual operational amplifier   Source: ROHM BA728.pdf
footprint SIP8
part A pins: 1 OUT (out), 2 -IN, 3 +IN
part B pins: 5 +IN, 6 -IN, 7 OUT (out)
part C pins: 4 V- (power), 8 V+ (power)

## CA3130D
designator IC?, comment OP AMP
footprint SO08
pins: 1 ON/CMP, 2 -IN, 3 +IN, 4 V- (power), 5 ON, 6 OUT (out), 7 V+ (power), 8 CMP

## CA3130N
designator IC?, comment OP AMP
footprint DIL08
pins: 1 ON/CMP, 2 -IN, 3 +IN, 4 V- (power), 5 ON, 6 OUT (out), 7 V+ (power), 8 CMP

## CA3130T
designator IC?, comment OP AMP
footprint TO99
pins: 1 ON/CMP, 2 -IN, 3 +IN, 4 V- (power), 5 ON, 6 OUT (out), 7 V+ (power), 8 CMP

## CA3140D
designator IC?, comment OP AMP
footprint SO08
pins: 1 ON/CMP, 2 -IN, 3 +IN, 4 V- (power), 5 ON, 6 OUT (out), 7 V+ (power), 8 CMP

## CA3140N
designator IC?, comment OP AMP
footprint DIL08
pins: 1 ON/CMP, 2 -IN, 3 +IN, 4 V- (power), 5 ON, 6 OUT (out), 7 V+ (power), 8 CMP

## CA3140T
designator IC?, comment OP AMP
footprint TO99
pins: 1 ON/CMP, 2 -IN, 3 +IN, 4 V- (power), 5 ON, 6 OUT (out), 7 V+ (power), 8 CMP

## CA3240ED
designator IC?, comment OP AMP
footprint SO08
part A pins: 1 OUT (out), 2 -IN, 3 +IN
part B pins: 5 +IN, 6 -IN, 7 OUT (out)
part C pins: 4 V- (power), 8 V+ (power)

## CA3240EN
designator IC?, comment OP AMP
footprint DIL08
part A pins: 1 OUT (out), 2 -IN, 3 +IN
part B pins: 5 +IN, 6 -IN, 7 OUT (out)
part C pins: 4 V- (power), 8 V+ (power)

## CA5160ED
designator IC?, comment OP AMP
footprint SO08
pins: 1 ON1, 2 -IN, 3 +IN, 4 V- (power), 5 ON2, 6 OUT (out), 7 V+ (power), 8 OPT

## CA5160EN
designator IC?, comment OP AMP
footprint DIL08
pins: 1 ON1, 2 -IN, 3 +IN, 4 V- (power), 5 ON2, 6 OUT (out), 7 V+ (power), 8 OPT

## CA5260ED
designator IC?, comment OP AMP
footprint SO08
part A pins: 1 OUT (out), 2 -IN, 3 +IN
part B pins: 5 +IN, 6 -IN, 7 OUT (out)
part C pins: 4 V- (power), 8 V+ (power)

## CA5260EN
designator IC?, comment OP AMP
footprint DIL08
part A pins: 1 OUT (out), 2 -IN, 3 +IN
part B pins: 5 +IN, 6 -IN, 7 OUT (out)
part C pins: 4 V- (power), 8 V+ (power)

## DAC7*D
designator IC?, comment 16-bit DIGITAL/ANALOG CONVERTER
footprint SO24W
pins: 1 B1, 2 B2, 3 B3, 4 B4, 5 B5, 6 B6, 7 B7, 8 B8, 9 B9, 10 B10, 11 B11, 12 B12, 13 B13, 14 B14, 15 B15, 16 B16, 17 RFEEDBCK (out), 18 VDD (power), 19 -VCC (power), 20 GND (power), 21 IOUT (out), 22 GAINADJ (out), 23 +VCC (power), 24 REFOUT (out)

## DAC7*N
designator IC?, comment 16-bit DIGITAL/ANALOG CONVERTER
footprint DIL24-6
pins: 1 B1, 2 B2, 3 B3, 4 B4, 5 B5, 6 B6, 7 B7, 8 B8, 9 B9, 10 B10, 11 B11, 12 B12, 13 B13, 14 B14, 15 B15, 16 B16, 17 RFEEDBCK (out), 18 VDD (power), 19 -VCC (power), 20 GND (power), 21 IOUT (out), 22 GAINADJ (out), 23 +VCC (power), 24 REFOUT (out)

## DAC70*D
designator IC?, comment 16-bit DIGITAL/ANALOG CONVERTER
footprint SO24W
pins: 1 B1, 2 B2, 3 B3, 4 B4, 5 B5, 6 B6, 7 B7, 8 B8, 9 B9, 10 B10, 11 B11, 12 B12, 13 B13, 14 B14, 15 B15, 16 B16, 17 VOUT (out), 18 VDD (power), 19 -VCC (power), 20 GND (power), 21 ZEROADJ (out), 22 GAINADJ (out), 23 +VCC (power), 24 REFOUT (out)

## DAC70*N
designator IC?, comment 16-bit DIGITAL/ANALOG CONVERTER
footprint DIL24-6
pins: 1 B1, 2 B2, 3 B3, 4 B4, 5 B5, 6 B6, 7 B7, 8 B8, 9 B9, 10 B10, 11 B11, 12 B12, 13 B13, 14 B14, 15 B15, 16 B16, 17 VOUT (out), 18 VDD (power), 19 -VCC (power), 20 GND (power), 21 ZEROADJ (out), 22 GAINADJ (out), 23 +VCC (power), 24 REFOUT (out)

## DAC0800D
designator IC?, comment 8-bit DIGITAL/ANALOG CONVERTER
footprint SO16
pins: 1 VLC, 2 !IOUT (out), 3 -V (power), 4 IOUT (out), 5 B1, 6 B2, 7 B3, 8 B4, 9 B5, 10 B6, 11 B7, 12 B8, 13 +V (power), 14 VREF+, 15 VREF-, 16 COMP

## DAC0800N
designator IC?, comment 8-bit DIGITAL/ANALOG CONVERTER
footprint DIL16
pins: 1 VLC, 2 !IOUT (out), 3 -V (power), 4 IOUT (out), 5 B1, 6 B2, 7 B3, 8 B4, 9 B5, 10 B6, 11 B7, 12 B8, 13 +V (power), 14 VREF+, 15 VREF-, 16 COMP

## DAC0808D
designator IC?, comment 8-bit DIGITAL/ANALOG CONVERTER   Source: http://www.national.com/ds/DA/DAC0808.pdf
footprint SO16
part A pins: 1 VCC (power), 6 GND (power), 7 VEE (power)
part B pins: 2 VREF+, 3 VREF-, 4 COMP, 8 IOUT (out), 9 A1, 10 A2, 11 A3, 12 A4, 13 A5, 14 A6, 15 A7, 16 A8

## DAC0808N
designator IC?, comment 8-bit DIGITAL/ANALOG CONVERTER   Source: http://www.national.com/ds/DA/DAC0808.pdf
footprint DIL16
part A pins: 2 GND (power), 3 VEE (power), 13 VCC (power)
part B pins: 4 IOUT (out), 5 A1, 6 A2, 7 A3, 8 A4, 9 A5, 10 A6, 11 A7, 12 A8, 14 VREF+, 15 VREF-, 16 COMP

## DACO8PD
designator IC?, comment 8-bit DIGITAL/ANALOG CONVERTER
footprint SO16
pins: 1 VLC, 2 !IO (out), 3 V- (power), 4 IO (out), 5 D0, 6 D1, 7 D2, 8 D3, 9 D4, 10 D5, 11 D6, 12 D7, 13 V+ (power), 14 +VR, 15 -VR, 16 CMP

## DACO8PN
designator IC?, comment 8-bit DIGITAL/ANALOG CONVERTER
footprint DIL16
pins: 1 VLC, 2 !IO (out), 3 V- (power), 4 IO (out), 5 D0, 6 D1, 7 D2, 8 D3, 9 D4, 10 D5, 11 D6, 12 D7, 13 V+ (power), 14 +VR, 15 -VR, 16 CMP

## DG200CJD
designator IC?, comment CMOS SWITCH
footprint SO14
part A pins: 9 D, 10 S, 14 IN
part B pins: 1 IN, 5 S, 6 D
part C pins: 3 GND (power), 7 V- (power), 12 V+ (power)

## DG200CJN
designator IC?, comment CMOS SWITCH
footprint DIL14
part A pins: 9 D, 10 S, 14 IN
part B pins: 1 IN, 5 S, 6 D
part C pins: 3 GND (power), 7 V- (power), 12 V+ (power)

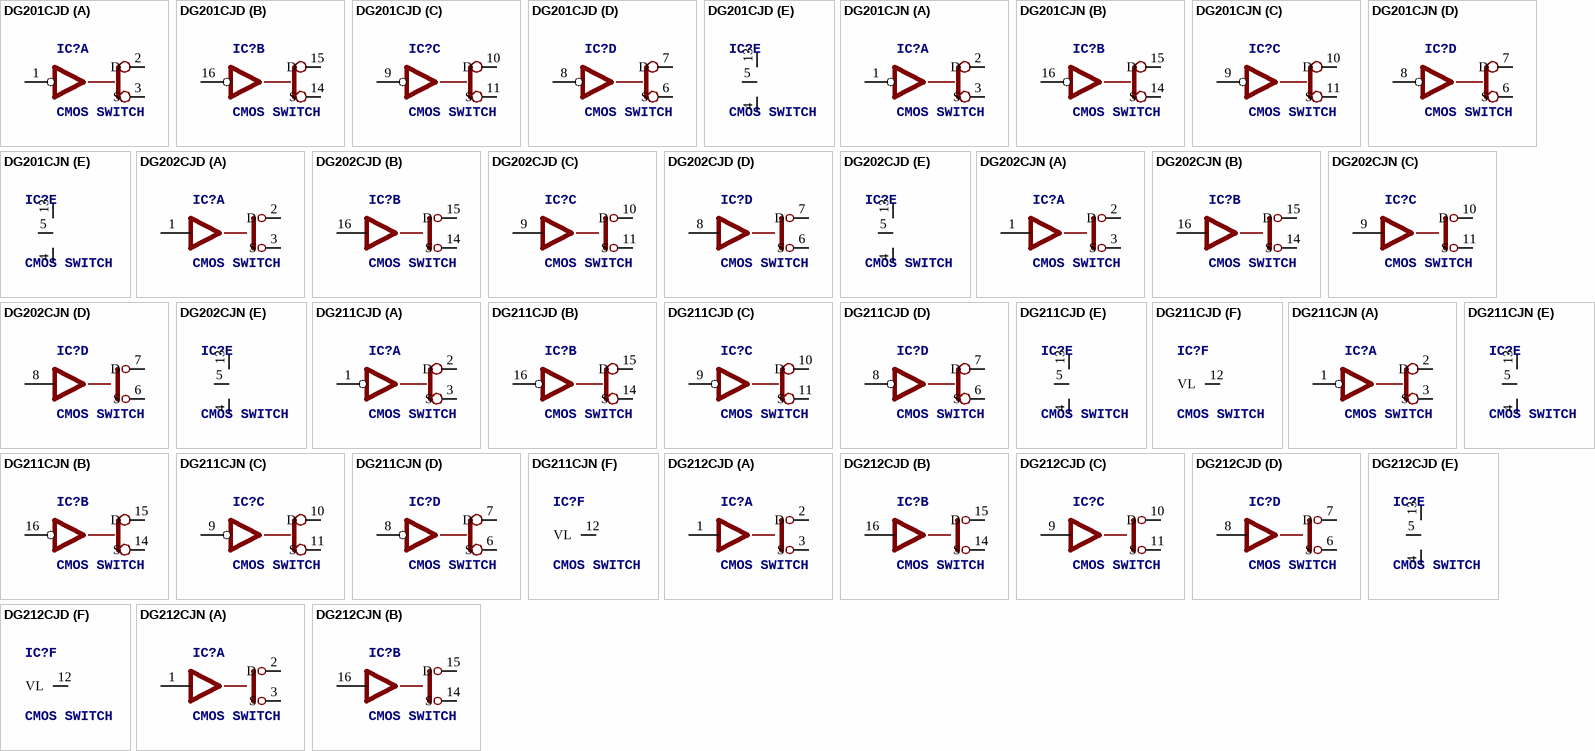
[diagram p7: symbols DG201CJD to DG212CJN]

## DG201CJD
designator IC?, comment CMOS SWITCH
footprint SO16
part A pins: 1 IN, 2 D, 3 S
part B pins: 14 S, 15 D, 16 IN
part C pins: 9 IN, 10 D, 11 S
part D pins: 6 S, 7 D, 8 IN
part E pins: 4 V- (power), 5 GND (power), 13 V+ (power)

## DG201CJN
designator IC?, comment CMOS SWITCH
footprint DIL16
part A pins: 1 IN, 2 D, 3 S
part B pins: 14 S, 15 D, 16 IN
part C pins: 9 IN, 10 D, 11 S
part D pins: 6 S, 7 D, 8 IN
part E pins: 4 V- (power), 5 GND (power), 13 V+ (power)

## DG202CJD
designator IC?, comment CMOS SWITCH
footprint SO16
part A pins: 1 IN, 2 D, 3 S
part B pins: 14 S, 15 D, 16 IN
part C pins: 9 IN, 10 D, 11 S
part D pins: 6 S, 7 D, 8 IN
part E pins: 4 V- (power), 5 GND (power), 13 V+ (power)

## DG202CJN
designator IC?, comment CMOS SWITCH
footprint DIL16
part A pins: 1 IN, 2 D, 3 S
part B pins: 14 S, 15 D, 16 IN
part C pins: 9 IN, 10 D, 11 S
part D pins: 6 S, 7 D, 8 IN
part E pins: 4 V- (power), 5 GND (power), 13 V+ (power)

## DG211CJD
designator IC?, comment CMOS SWITCH
footprint SO16
part A pins: 1 IN, 2 D, 3 S
part B pins: 14 S, 15 D, 16 IN
part C pins: 9 IN, 10 D, 11 S
part D pins: 6 S, 7 D, 8 IN
part E pins: 4 V- (power), 5 GND (power), 13 V+ (power)
part F pins: 12 VL

## DG211CJN
designator IC?, comment CMOS SWITCH
footprint DIL16
part A pins: 1 IN, 2 D, 3 S
part B pins: 14 S, 15 D, 16 IN
part C pins: 9 IN, 10 D, 11 S
part D pins: 6 S, 7 D, 8 IN
part E pins: 4 V- (power), 5 GND (power), 13 V+ (power)
part F pins: 12 VL

## DG212CJD
designator IC?, comment CMOS SWITCH
footprint SO16
part A pins: 1 IN, 2 D, 3 S
part B pins: 14 S, 15 D, 16 IN
part C pins: 9 IN, 10 D, 11 S
part D pins: 6 S, 7 D, 8 IN
part E pins: 4 V- (power), 5 GND (power), 13 V+ (power)
part F pins: 12 VL

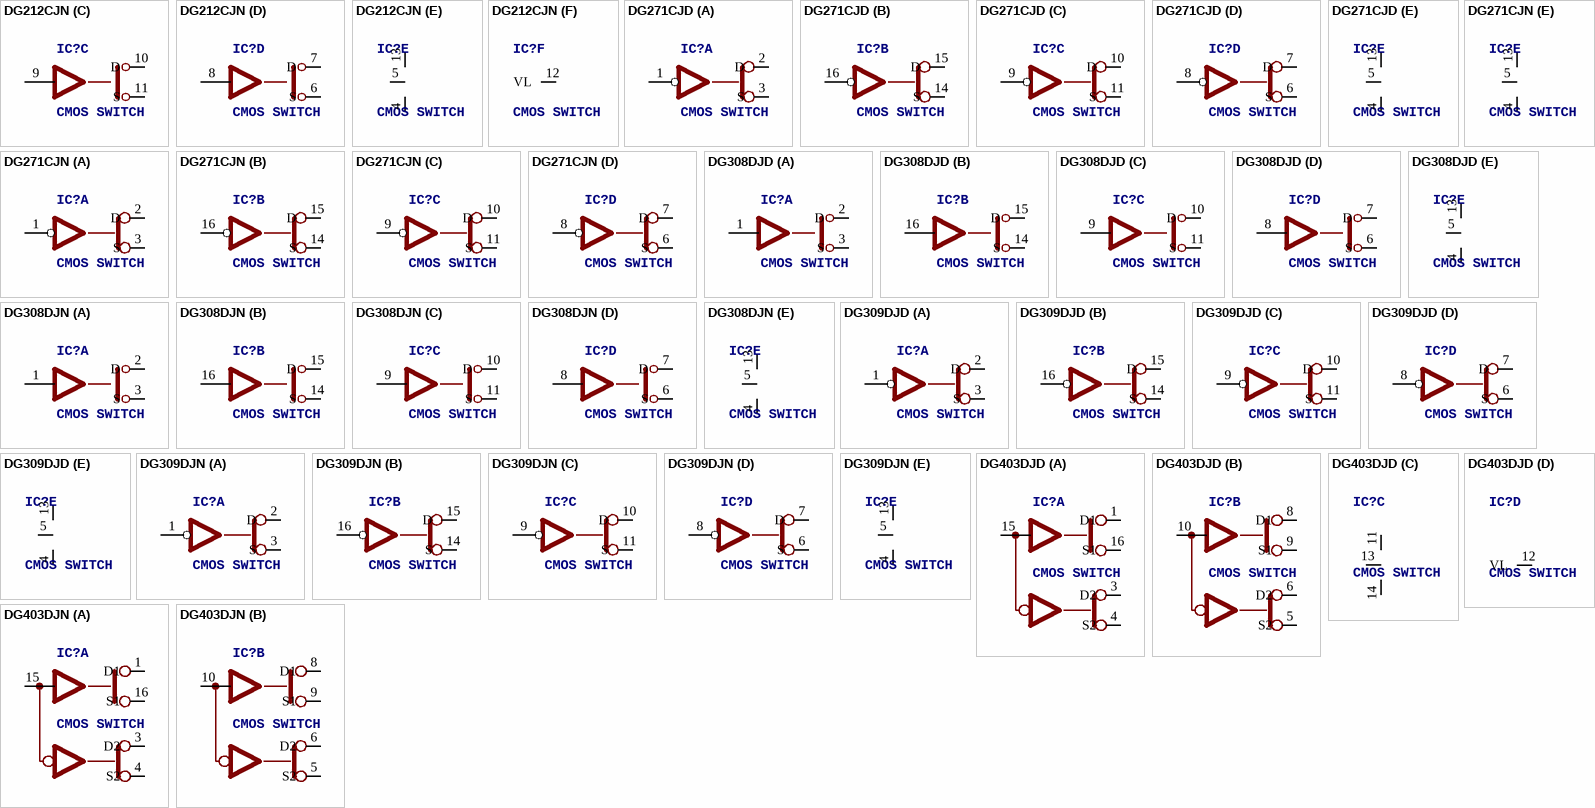
[diagram p8: symbols DG212CJN to DG403DJN]

## DG212CJN
designator IC?, comment CMOS SWITCH
footprint DIL16
part A pins: 1 IN, 2 D, 3 S
part B pins: 14 S, 15 D, 16 IN
part C pins: 9 IN, 10 D, 11 S
part D pins: 6 S, 7 D, 8 IN
part E pins: 4 V- (power), 5 GND (power), 13 V+ (power)
part F pins: 12 VL

## DG271CJD
designator IC?, comment CMOS SWITCH
footprint SO16
part A pins: 1 IN, 2 D, 3 S
part B pins: 14 S, 15 D, 16 IN
part C pins: 9 IN, 10 D, 11 S
part D pins: 6 S, 7 D, 8 IN
part E pins: 4 V- (power), 5 GND (power), 13 V+ (power)

## DG271CJN
designator IC?, comment CMOS SWITCH
footprint DIL16
part A pins: 1 IN, 2 D, 3 S
part B pins: 14 S, 15 D, 16 IN
part C pins: 9 IN, 10 D, 11 S
part D pins: 6 S, 7 D, 8 IN
part E pins: 4 V- (power), 5 GND (power), 13 V+ (power)

## DG308DJD
designator IC?, comment CMOS SWITCH
footprint SO16
part A pins: 1 IN, 2 D, 3 S
part B pins: 14 S, 15 D, 16 IN
part C pins: 9 IN, 10 D, 11 S
part D pins: 6 S, 7 D, 8 IN
part E pins: 4 V- (power), 5 GND (power), 13 V+ (power)

## DG308DJN
designator IC?, comment CMOS SWITCH
footprint DIL16
part A pins: 1 IN, 2 D, 3 S
part B pins: 14 S, 15 D, 16 IN
part C pins: 9 IN, 10 D, 11 S
part D pins: 6 S, 7 D, 8 IN
part E pins: 4 V- (power), 5 GND (power), 13 V+ (power)

## DG309DJD
designator IC?, comment CMOS SWITCH
footprint SO16
part A pins: 1 IN, 2 D, 3 S
part B pins: 14 S, 15 D, 16 IN
part C pins: 9 IN, 10 D, 11 S
part D pins: 6 S, 7 D, 8 IN
part E pins: 4 V- (power), 5 GND (power), 13 V+ (power)

## DG309DJN
designator IC?, comment CMOS SWITCH
footprint DIL16
part A pins: 1 IN, 2 D, 3 S
part B pins: 14 S, 15 D, 16 IN
part C pins: 9 IN, 10 D, 11 S
part D pins: 6 S, 7 D, 8 IN
part E pins: 4 V- (power), 5 GND (power), 13 V+ (power)

## DG403DJD
designator IC?, comment CMOS SWITCH
footprint SO16
part A pins: 1 D1, 3 D2, 4 S2, 15 IN, 16 S1
part B pins: 5 S2, 6 D2, 8 D1, 9 S1, 10 IN
part C pins: 11 V+ (power), 13 GND (power), 14 V- (power)
part D pins: 12 VL

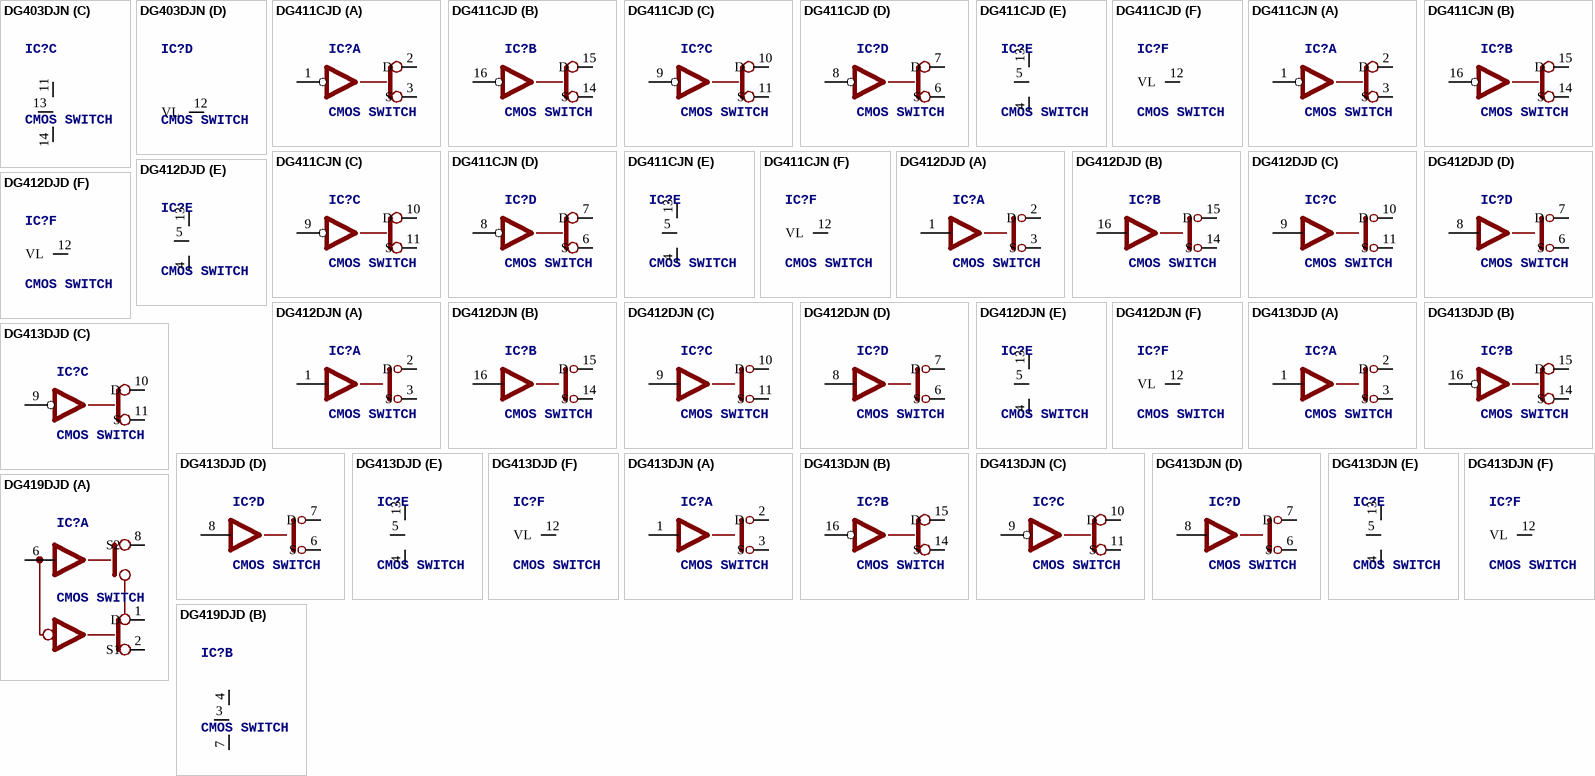
[diagram p9: symbols DG403DJN to DG419DJD]

## DG403DJN
designator IC?, comment CMOS SWITCH
footprint DIL16
part A pins: 1 D1, 3 D2, 4 S2, 15 IN, 16 S1
part B pins: 5 S2, 6 D2, 8 D1, 9 S1, 10 IN
part C pins: 11 V+ (power), 13 GND (power), 14 V- (power)
part D pins: 12 VL

## DG411CJD
designator IC?, comment CMOS SWITCH
footprint SO16
part A pins: 1 IN, 2 D, 3 S
part B pins: 14 S, 15 D, 16 IN
part C pins: 9 IN, 10 D, 11 S
part D pins: 6 S, 7 D, 8 IN
part E pins: 4 V- (power), 5 GND (power), 13 V+ (power)
part F pins: 12 VL

## DG411CJN
designator IC?, comment CMOS SWITCH
footprint DIL16
part A pins: 1 IN, 2 D, 3 S
part B pins: 14 S, 15 D, 16 IN
part C pins: 9 IN, 10 D, 11 S
part D pins: 6 S, 7 D, 8 IN
part E pins: 4 V- (power), 5 GND (power), 13 V+ (power)
part F pins: 12 VL

## DG412DJD
designator IC?, comment CMOS SWITCH
footprint SO16
part A pins: 1 IN, 2 D, 3 S
part B pins: 14 S, 15 D, 16 IN
part C pins: 9 IN, 10 D, 11 S
part D pins: 6 S, 7 D, 8 IN
part E pins: 4 V- (power), 5 GND (power), 13 V+ (power)
part F pins: 12 VL

## DG412DJN
designator IC?, comment CMOS SWITCH
footprint DIL16
part A pins: 1 IN, 2 D, 3 S
part B pins: 14 S, 15 D, 16 IN
part C pins: 9 IN, 10 D, 11 S
part D pins: 6 S, 7 D, 8 IN
part E pins: 4 V- (power), 5 GND (power), 13 V+ (power)
part F pins: 12 VL

## DG413DJD
designator IC?, comment CMOS SWITCH
footprint SO16
part A pins: 1 IN, 2 D, 3 S
part B pins: 14 S, 15 D, 16 IN
part C pins: 9 IN, 10 D, 11 S
part D pins: 6 S, 7 D, 8 IN
part E pins: 4 V- (power), 5 GND (power), 13 V+ (power)
part F pins: 12 VL

## DG413DJN
designator IC?, comment CMOS SWITCH
footprint DIL16
part A pins: 1 IN, 2 D, 3 S
part B pins: 14 S, 15 D, 16 IN
part C pins: 9 IN, 10 D, 11 S
part D pins: 6 S, 7 D, 8 IN
part E pins: 4 V- (power), 5 GND (power), 13 V+ (power)
part F pins: 12 VL

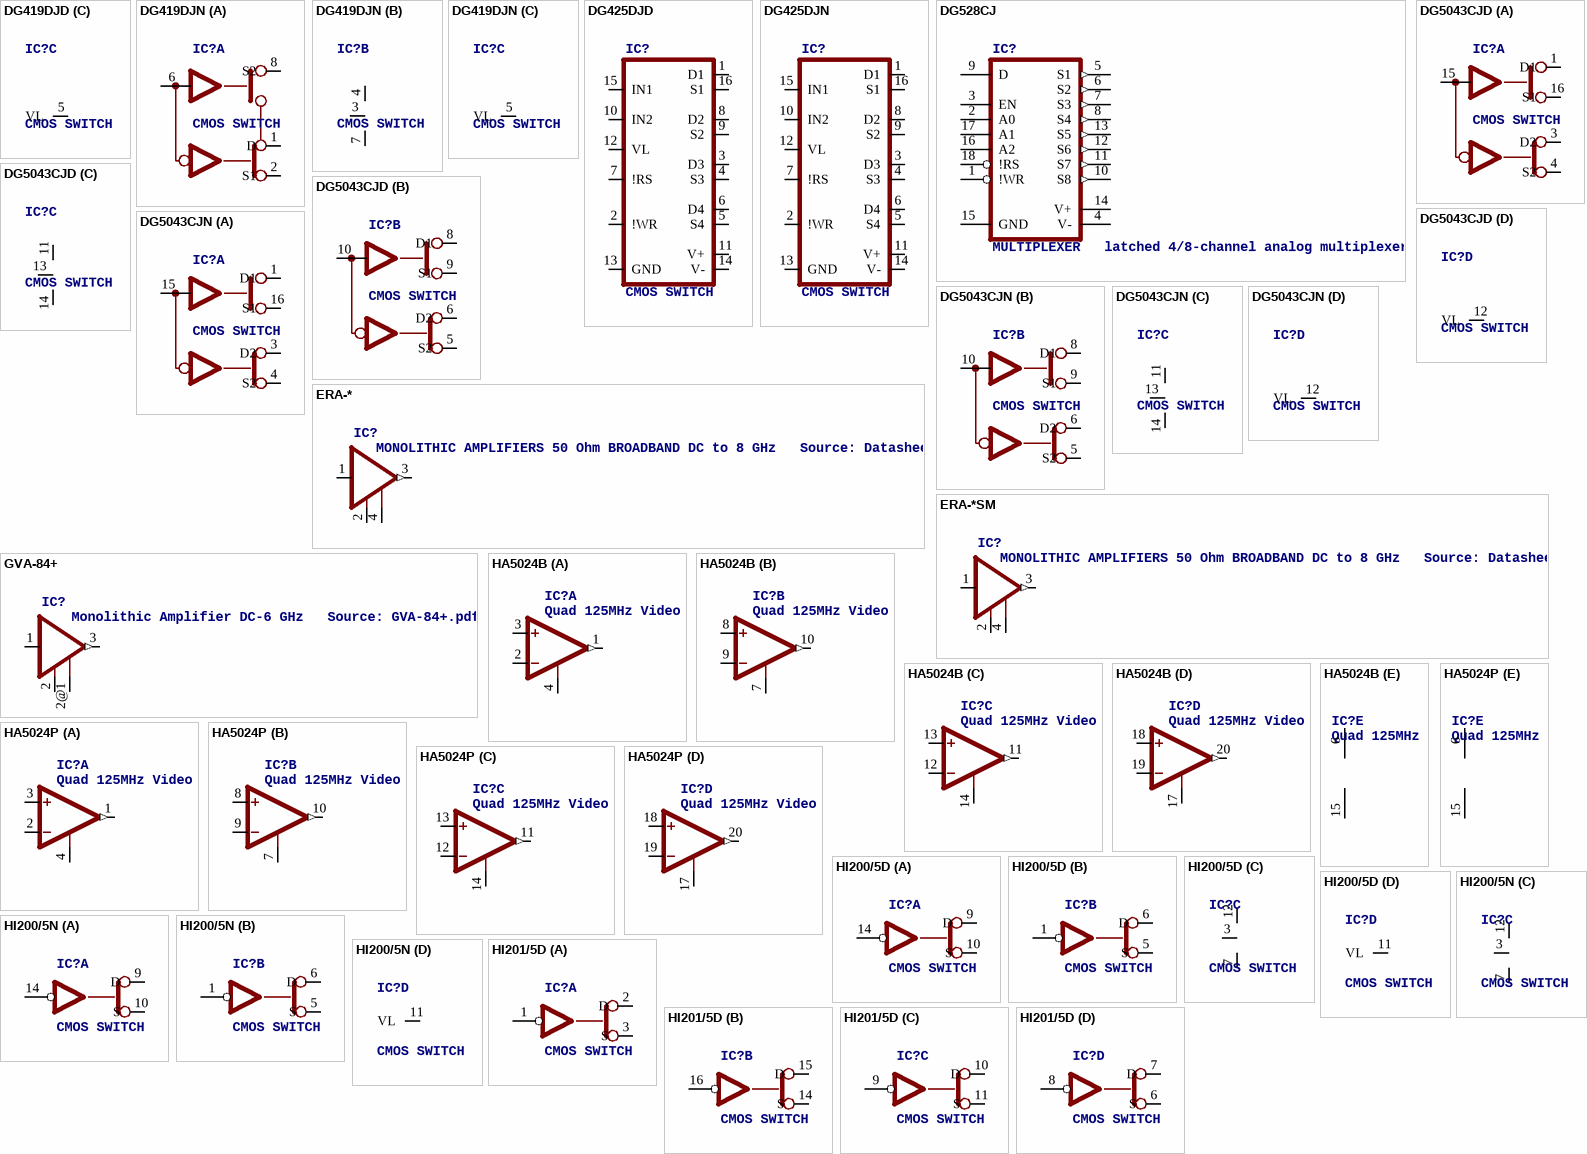
[diagram p10: symbols DG419DJD to HI201/5D]

## DG419DJD
designator IC?, comment CMOS SWITCH
footprint SO08
part A pins: 1 D, 2 S1, 6 IN, 8 S2
part B pins: 3 GND (power), 4 V+ (power), 7 V- (power)
part C pins: 5 VL

## DG419DJN
designator IC?, comment CMOS SWITCH
footprint DIL08
part A pins: 1 D, 2 S1, 6 IN, 8 S2
part B pins: 3 GND (power), 4 V+ (power), 7 V- (power)
part C pins: 5 VL

## DG425DJD
designator IC?, comment CMOS SWITCH
footprint SO16
pins: 1 D1, 2 !WR, 3 D3, 4 S3, 5 S4, 6 D4, 7 !RS, 8 D2, 9 S2, 10 IN2, 11 V+ (power), 12 VL, 13 GND (power), 14 V- (power), 15 IN1, 16 S1

## DG425DJN
designator IC?, comment CMOS SWITCH
footprint DIL16
pins: 1 D1, 2 !WR, 3 D3, 4 S3, 5 S4, 6 D4, 7 !RS, 8 D2, 9 S2, 10 IN2, 11 V+ (power), 12 VL, 13 GND (power), 14 V- (power), 15 IN1, 16 S1

## DG528CJ
designator IC?, comment MULTIPLEXER   latched 4/8-channel analog multiplexer
footprint DIL18
pins: 1 !WR, 2 A0, 3 EN, 4 V- (power), 5 S1 (out), 6 S2 (out), 7 S3 (out), 8 S4 (out), 9 D, 10 S8 (out), 11 S7 (out), 12 S6 (out), 13 S5 (out), 14 V+ (power), 15 GND (power), 16 A2, 17 A1, 18 !RS

## DG5043CJD
designator IC?, comment CMOS SWITCH
footprint SO16
part A pins: 1 D1, 3 D2, 4 S2, 15 IN, 16 S1
part B pins: 5 S2, 6 D2, 8 D1, 9 S1, 10 IN
part C pins: 11 V+ (power), 13 GND (power), 14 V- (power)
part D pins: 12 VL

## DG5043CJN
designator IC?, comment CMOS SWITCH
footprint DIL16
part A pins: 1 D1, 3 D2, 4 S2, 15 IN, 16 S1
part B pins: 5 S2, 6 D2, 8 D1, 9 S1, 10 IN
part C pins: 11 V+ (power), 13 GND (power), 14 V- (power)
part D pins: 12 VL

## ERA-*
designator IC?, comment MONOLITHIC AMPLIFIERS 50 Ohm BROADBAND DC to 8 GHz   Source: Datasheet
footprint VV
pins: 1 RFIN, 2 GND@1 (power), 3 RFOUT/DCIN (out), 4 GND@2 (power)

## ERA-*SM
designator IC?, comment MONOLITHIC AMPLIFIERS 50 Ohm BROADBAND DC to 8 GHz   Source: Datasheet
footprint WW
pins: 1 RFIN, 2 GND@1 (power), 3 RFOUT/DCIN (out), 4 GND@2 (power)

## GVA-84+
designator IC?, comment Monolithic Amplifier DC-6 GHz   Source: GVA-84+.pdf
footprint SOT89
pins: 1 +IN, 2 GND@1 (power), 2@1 GND@2 (power), 3 OUT (out)

## HA5024B
designator IC?, comment Quad 125MHz Video Current Feedback Amplifier with Disable   Source: http://www.intersil.com/data/fn/fn3550.pdf
footprint SO20W
part A pins: 1 OUT (out), 2 -IN, 3 +IN, 4 !CS
part B pins: 7 !CS, 8 +IN, 9 -IN, 10 OUT (out)
part C pins: 11 OUT (out), 12 -IN, 13 +IN, 14 !CS
part D pins: 17 !CS, 18 +IN, 19 -IN, 20 OUT (out)
part E pins: 6 V+ (power), 15 V- (power)

## HA5024P
designator IC?, comment Quad 125MHz Video Current Feedback Amplifier with Disable   Source: http://www.intersil.com/data/fn/fn3550.pdf
footprint DIL20
part A pins: 1 OUT (out), 2 -IN, 3 +IN, 4 !CS
part B pins: 7 !CS, 8 +IN, 9 -IN, 10 OUT (out)
part C pins: 11 OUT (out), 12 -IN, 13 +IN, 14 !CS
part D pins: 17 !CS, 18 +IN, 19 -IN, 20 OUT (out)
part E pins: 6 V+ (power), 15 V- (power)

## HI200/5D
designator IC?, comment CMOS SWITCH
footprint SO14
part A pins: 9 D, 10 S, 14 IN
part B pins: 1 IN, 5 S, 6 D
part C pins: 3 GND (power), 7 V- (power), 12 V+ (power)
part D pins: 11 VL

## HI200/5N
designator IC?, comment CMOS SWITCH
footprint DIL14
part A pins: 9 D, 10 S, 14 IN
part B pins: 1 IN, 5 S, 6 D
part C pins: 3 GND (power), 7 V- (power), 12 V+ (power)
part D pins: 11 VL

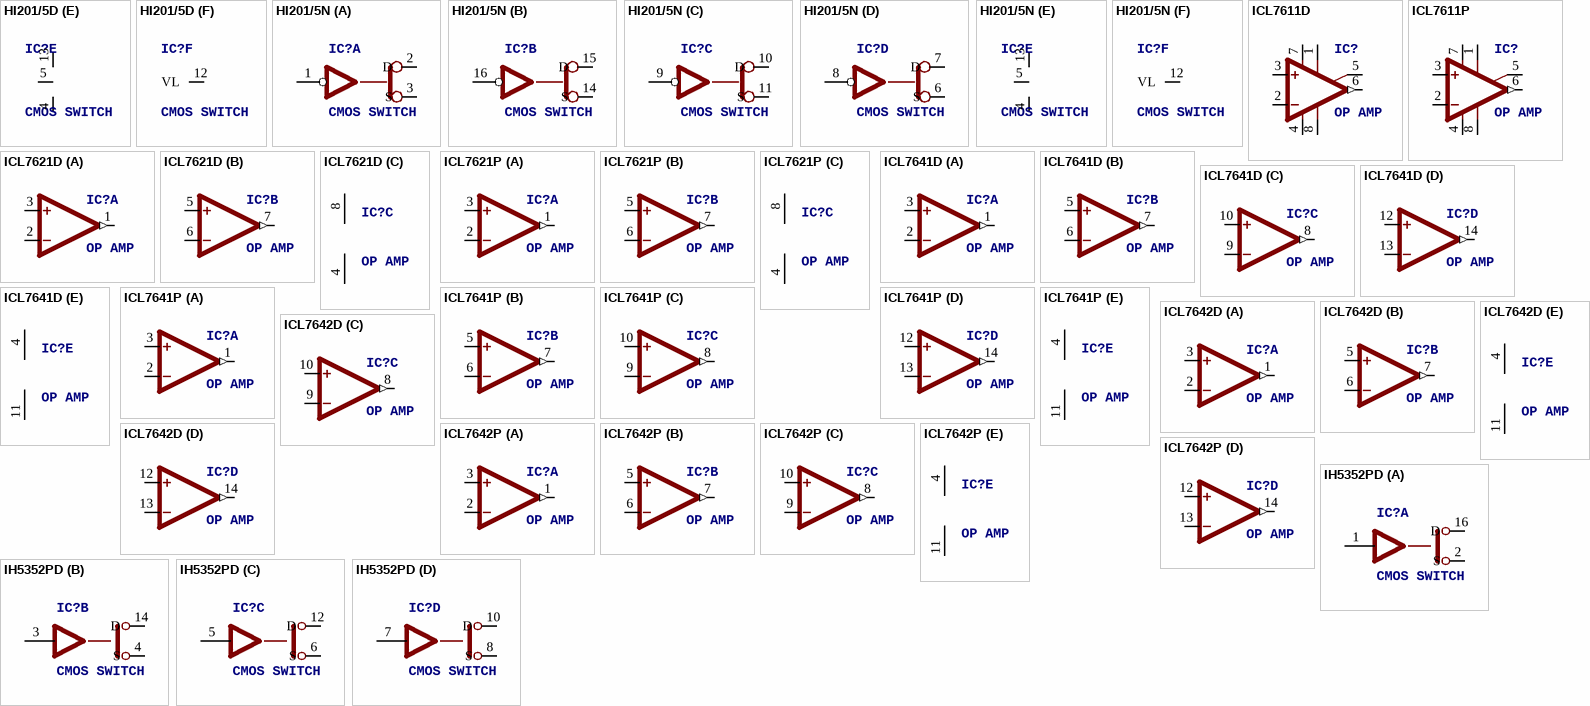
[diagram p11: symbols HI201/5D to IH5352PD]

## HI201/5D
designator IC?, comment CMOS SWITCH
footprint SO16
part A pins: 1 IN, 2 D, 3 S
part B pins: 14 S, 15 D, 16 IN
part C pins: 9 IN, 10 D, 11 S
part D pins: 6 S, 7 D, 8 IN
part E pins: 4 V- (power), 5 GND (power), 13 V+ (power)
part F pins: 12 VL

## HI201/5N
designator IC?, comment CMOS SWITCH
footprint DIL16
part A pins: 1 IN, 2 D, 3 S
part B pins: 14 S, 15 D, 16 IN
part C pins: 9 IN, 10 D, 11 S
part D pins: 6 S, 7 D, 8 IN
part E pins: 4 V- (power), 5 GND (power), 13 V+ (power)
part F pins: 12 VL

## ICL7611D
designator IC?, comment OP AMP
footprint SO08
pins: 1 ON1, 2 -IN, 3 +IN, 4 V- (power), 5 ON2, 6 OUT (out), 7 V+ (power), 8 OPT

## ICL7611P
designator IC?, comment OP AMP
footprint DIL08
pins: 1 ON1, 2 -IN, 3 +IN, 4 V- (power), 5 ON2, 6 OUT (out), 7 V+ (power), 8 OPT

## ICL7621D
designator IC?, comment OP AMP
footprint SO08
part A pins: 1 OUT (out), 2 -IN, 3 +IN
part B pins: 5 +IN, 6 -IN, 7 OUT (out)
part C pins: 4 V- (power), 8 V+ (power)

## ICL7621P
designator IC?, comment OP AMP
footprint DIL08
part A pins: 1 OUT (out), 2 -IN, 3 +IN
part B pins: 5 +IN, 6 -IN, 7 OUT (out)
part C pins: 4 V- (power), 8 V+ (power)

## ICL7641D
designator IC?, comment OP AMP
footprint SO14
part A pins: 1 OUT (out), 2 -IN, 3 +IN
part B pins: 5 +IN, 6 -IN, 7 OUT (out)
part C pins: 8 OUT (out), 9 -IN, 10 +IN
part D pins: 12 +IN, 13 -IN, 14 OUT (out)
part E pins: 4 V+ (power), 11 V- (power)

## ICL7641P
designator IC?, comment OP AMP
footprint DIL14
part A pins: 1 OUT (out), 2 -IN, 3 +IN
part B pins: 5 +IN, 6 -IN, 7 OUT (out)
part C pins: 8 OUT (out), 9 -IN, 10 +IN
part D pins: 12 +IN, 13 -IN, 14 OUT (out)
part E pins: 4 V+ (power), 11 V- (power)

## ICL7642D
designator IC?, comment OP AMP
footprint SO14
part A pins: 1 OUT (out), 2 -IN, 3 +IN
part B pins: 5 +IN, 6 -IN, 7 OUT (out)
part C pins: 8 OUT (out), 9 -IN, 10 +IN
part D pins: 12 +IN, 13 -IN, 14 OUT (out)
part E pins: 4 V+ (power), 11 V- (power)

## ICL7642P
designator IC?, comment OP AMP
footprint DIL14
part A pins: 1 OUT (out), 2 -IN, 3 +IN
part B pins: 5 +IN, 6 -IN, 7 OUT (out)
part C pins: 8 OUT (out), 9 -IN, 10 +IN
part D pins: 12 +IN, 13 -IN, 14 OUT (out)
part E pins: 4 V+ (power), 11 V- (power)

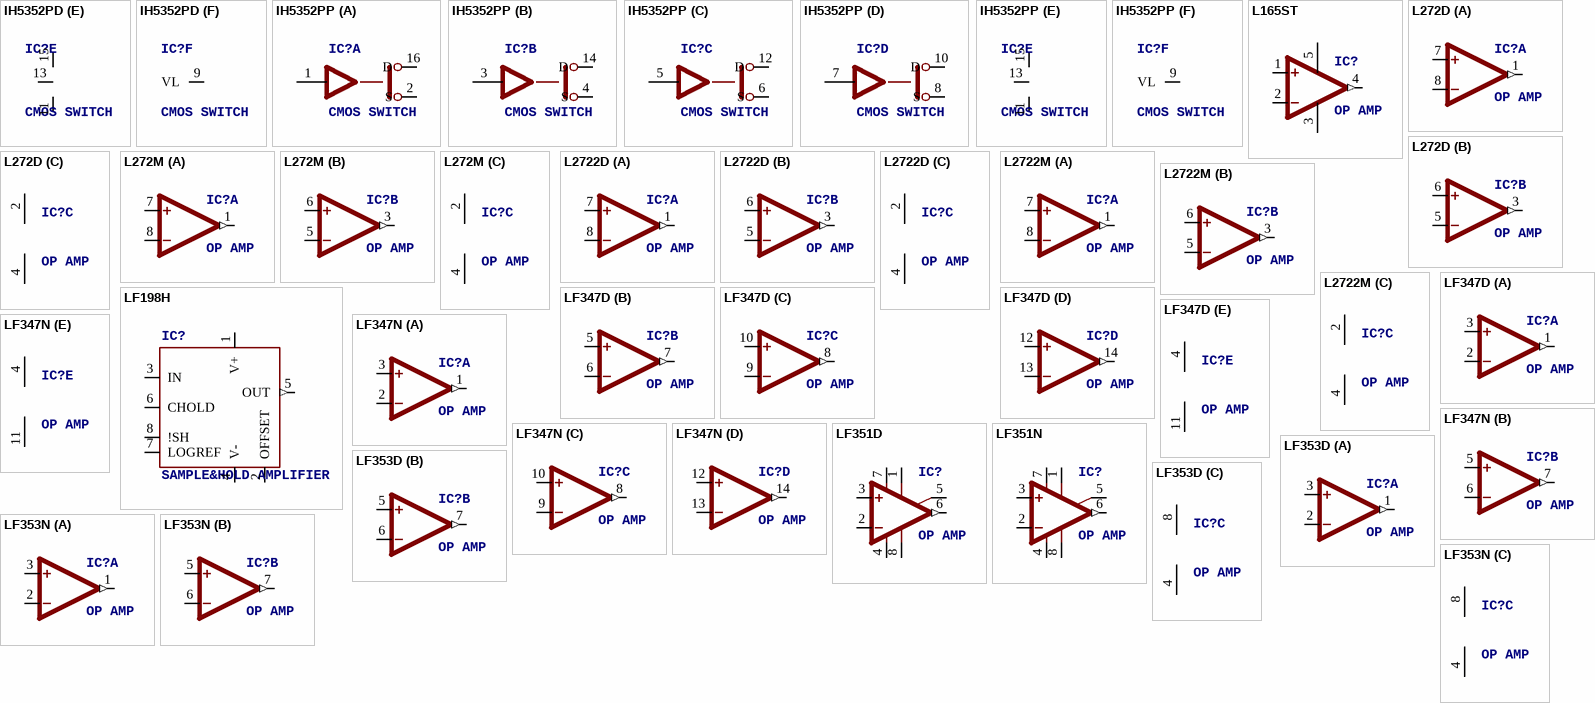
[diagram p12: symbols IH5352PD to LF353N]

## IH5352PD
designator IC?, comment CMOS SWITCH
footprint SO16
part A pins: 1 IN, 2 S, 16 D
part B pins: 3 IN, 4 S, 14 D
part C pins: 5 IN, 6 S, 12 D
part D pins: 7 IN, 8 S, 10 D
part E pins: 11 V- (power), 13 GND (power), 15 V+ (power)
part F pins: 9 VL

## IH5352PP
designator IC?, comment CMOS SWITCH
footprint DIL16
part A pins: 1 IN, 2 S, 16 D
part B pins: 3 IN, 4 S, 14 D
part C pins: 5 IN, 6 S, 12 D
part D pins: 7 IN, 8 S, 10 D
part E pins: 11 V- (power), 13 GND (power), 15 V+ (power)
part F pins: 9 VL

## L165ST
designator IC?, comment OP AMP
footprint CB360
pins: 1 +IN, 2 -IN, 3 GND (power), 4 OUT (out), 5 V+ (power)

## L272D
designator IC?, comment OP AMP
footprint SO08
part A pins: 1 OUT (out), 7 +IN, 8 -IN
part B pins: 3 OUT (out), 5 -IN, 6 +IN
part C pins: 2 V+ (power), 4 GND (power)

## L272M
designator IC?, comment OP AMP
footprint DIL08
part A pins: 1 OUT (out), 7 +IN, 8 -IN
part B pins: 3 OUT (out), 5 -IN, 6 +IN
part C pins: 2 V+ (power), 4 GND (power)

## L2722D
designator IC?, comment OP AMP
footprint SO08
part A pins: 1 OUT (out), 7 +IN, 8 -IN
part B pins: 3 OUT (out), 5 -IN, 6 +IN
part C pins: 2 V+ (power), 4 GND (power)

## L2722M
designator IC?, comment OP AMP
footprint DIL08
part A pins: 1 OUT (out), 7 +IN, 8 -IN
part B pins: 3 OUT (out), 5 -IN, 6 +IN
part C pins: 2 V+ (power), 4 GND (power)

## LF198H
designator IC?, comment SAMPLE&HOLD AMPLIFIER
footprint H08C
pins: 1 V+ (power), 2 OFFSET, 3 IN, 4 V- (power), 5 OUT (out), 6 CHOLD, 7 LOGREF (power), 8 !SH

## LF347D
designator IC?, comment OP AMP
footprint SO14
part A pins: 1 OUT (out), 2 -IN, 3 +IN
part B pins: 5 +IN, 6 -IN, 7 OUT (out)
part C pins: 8 OUT (out), 9 -IN, 10 +IN
part D pins: 12 +IN, 13 -IN, 14 OUT (out)
part E pins: 4 V+ (power), 11 V- (power)

## LF347N
designator IC?, comment OP AMP
footprint DIL14
part A pins: 1 OUT (out), 2 -IN, 3 +IN
part B pins: 5 +IN, 6 -IN, 7 OUT (out)
part C pins: 8 OUT (out), 9 -IN, 10 +IN
part D pins: 12 +IN, 13 -IN, 14 OUT (out)
part E pins: 4 V+ (power), 11 V- (power)

## LF351D
designator IC?, comment OP AMP
footprint SO08
pins: 1 ON1, 2 -IN, 3 +IN, 4 V- (power), 5 ON2, 6 OUT (out), 7 V+ (power), 8 OPT

## LF351N
designator IC?, comment OP AMP
footprint DIL08
pins: 1 ON1, 2 -IN, 3 +IN, 4 V- (power), 5 ON2, 6 OUT (out), 7 V+ (power), 8 OPT

## LF353D
designator IC?, comment OP AMP
footprint SO08
part A pins: 1 OUT (out), 2 -IN, 3 +IN
part B pins: 5 +IN, 6 -IN, 7 OUT (out)
part C pins: 4 V- (power), 8 V+ (power)

## LF353N
designator IC?, comment OP AMP
footprint DIL08
part A pins: 1 OUT (out), 2 -IN, 3 +IN
part B pins: 5 +IN, 6 -IN, 7 OUT (out)
part C pins: 4 V- (power), 8 V+ (power)

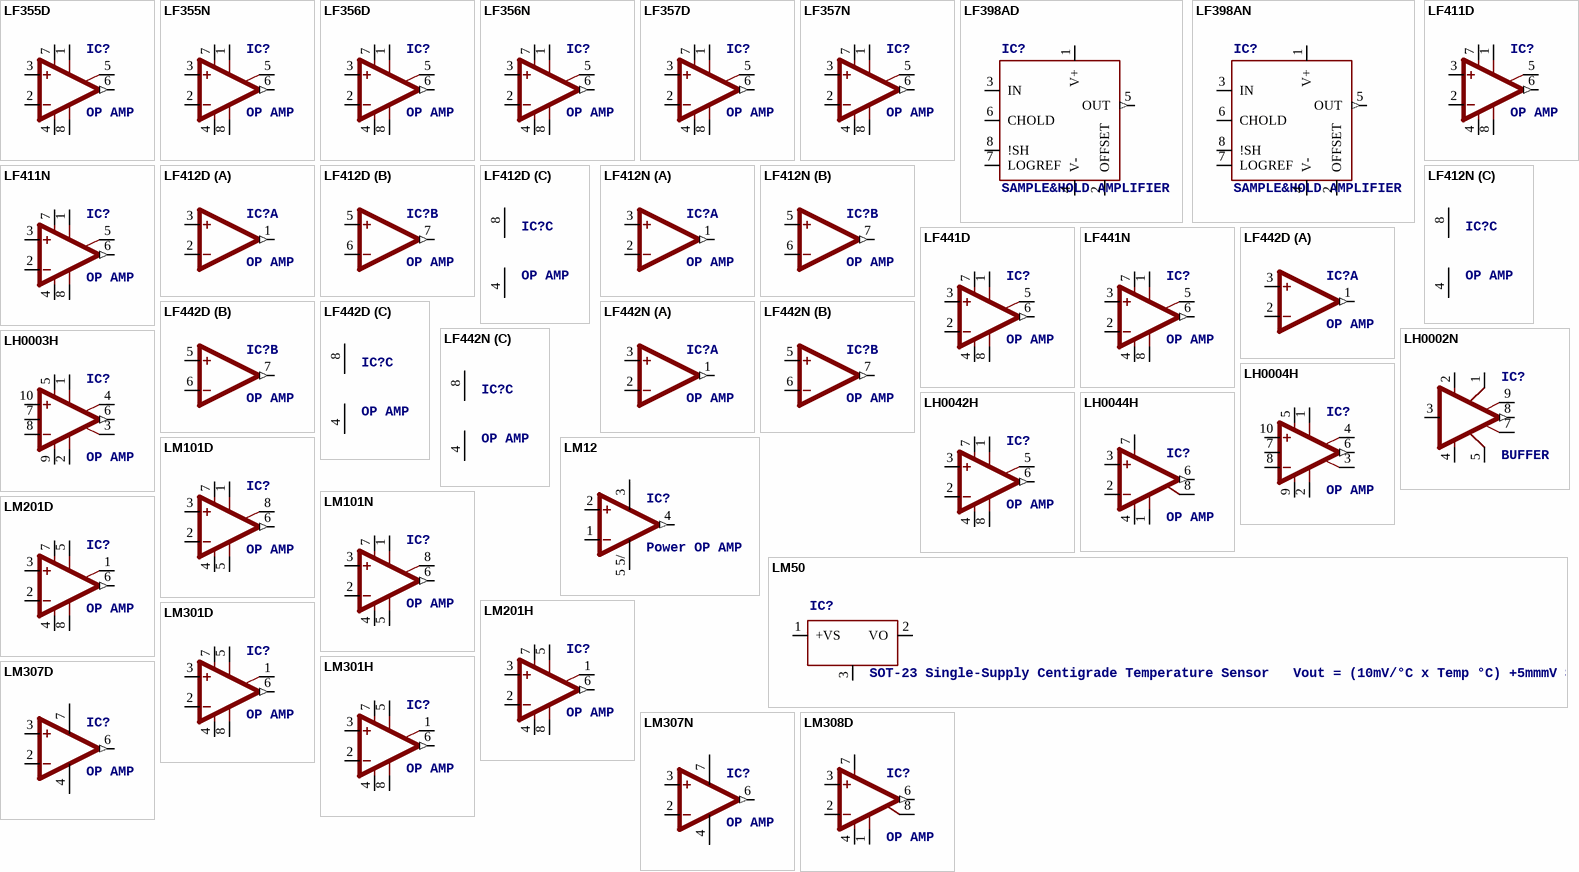
[diagram p13: symbols LF355D to LM308D]

## LF355D
designator IC?, comment OP AMP
footprint SO08
pins: 1 ON1, 2 -IN, 3 +IN, 4 V- (power), 5 ON2, 6 OUT (out), 7 V+ (power), 8 OPT

## LF355N
designator IC?, comment OP AMP
footprint DIL08
pins: 1 ON1, 2 -IN, 3 +IN, 4 V- (power), 5 ON2, 6 OUT (out), 7 V+ (power), 8 OPT

## LF356D
designator IC?, comment OP AMP
footprint SO08
pins: 1 ON1, 2 -IN, 3 +IN, 4 V- (power), 5 ON2, 6 OUT (out), 7 V+ (power), 8 OPT

## LF356N
designator IC?, comment OP AMP
footprint DIL08
pins: 1 ON1, 2 -IN, 3 +IN, 4 V- (power), 5 ON2, 6 OUT (out), 7 V+ (power), 8 OPT

## LF357D
designator IC?, comment OP AMP
footprint SO08
pins: 1 ON1, 2 -IN, 3 +IN, 4 V- (power), 5 ON2, 6 OUT (out), 7 V+ (power), 8 OPT

## LF357N
designator IC?, comment OP AMP
footprint DIL08
pins: 1 ON1, 2 -IN, 3 +IN, 4 V- (power), 5 ON2, 6 OUT (out), 7 V+ (power), 8 OPT

## LF398AD
designator IC?, comment SAMPLE&HOLD AMPLIFIER
footprint SO08
pins: 1 V+ (power), 2 OFFSET, 3 IN, 4 V- (power), 5 OUT (out), 6 CHOLD, 7 LOGREF (power), 8 !SH

## LF398AN
designator IC?, comment SAMPLE&HOLD AMPLIFIER
footprint DIL08
pins: 1 V+ (power), 2 OFFSET, 3 IN, 4 V- (power), 5 OUT (out), 6 CHOLD, 7 LOGREF (power), 8 !SH

## LF411D
designator IC?, comment OP AMP
footprint SO08
pins: 1 ON1, 2 -IN, 3 +IN, 4 V- (power), 5 ON2, 6 OUT (out), 7 V+ (power), 8 OPT

## LF411N
designator IC?, comment OP AMP
footprint DIL08
pins: 1 ON1, 2 -IN, 3 +IN, 4 V- (power), 5 ON2, 6 OUT (out), 7 V+ (power), 8 OPT

## LF412D
designator IC?, comment OP AMP
footprint SO08
part A pins: 1 OUT (out), 2 -IN, 3 +IN
part B pins: 5 +IN, 6 -IN, 7 OUT (out)
part C pins: 4 V- (power), 8 V+ (power)

## LF412N
designator IC?, comment OP AMP
footprint DIL08
part A pins: 1 OUT (out), 2 -IN, 3 +IN
part B pins: 5 +IN, 6 -IN, 7 OUT (out)
part C pins: 4 V- (power), 8 V+ (power)

## LF441D
designator IC?, comment OP AMP
footprint SO08
pins: 1 ON1, 2 -IN, 3 +IN, 4 V- (power), 5 ON2, 6 OUT (out), 7 V+ (power), 8 OPT

## LF441N
designator IC?, comment OP AMP
footprint DIL08
pins: 1 ON1, 2 -IN, 3 +IN, 4 V- (power), 5 ON2, 6 OUT (out), 7 V+ (power), 8 OPT

## LF442D
designator IC?, comment OP AMP
footprint SO08
part A pins: 1 OUT (out), 2 -IN, 3 +IN
part B pins: 5 +IN, 6 -IN, 7 OUT (out)
part C pins: 4 V- (power), 8 V+ (power)

## LF442N
designator IC?, comment OP AMP
footprint DIL08
part A pins: 1 OUT (out), 2 -IN, 3 +IN
part B pins: 5 +IN, 6 -IN, 7 OUT (out)
part C pins: 4 V- (power), 8 V+ (power)

## LH0002N
designator IC?, comment BUFFER
footprint DIL10
pins: 1 V2+, 2 V1+, 3 IN, 4 V1-, 5 V2-, 7 E4, 8 OUT (out), 9 E3

## LH0003H
designator IC?, comment OP AMP
footprint TO100
pins: 1 CMP1, 2 BS2, 3 BS1, 4 CMP1/CL, 5 V+ (power), 6 OUT (out), 7 CMP2, 8 -IN, 9 V- (power), 10 +IN

## LH0004H
designator IC?, comment OP AMP
footprint TO100
pins: 1 CMP1, 2 BS2, 3 BS1, 4 CMP1/CL, 5 V+ (power), 6 OUT (out), 7 CMP2, 8 -IN, 9 V- (power), 10 +IN

## LH0042H
designator IC?, comment OP AMP
footprint TO99
pins: 1 ON1, 2 -IN, 3 +IN, 4 V- (power), 5 ON2, 6 OUT (out), 7 V+ (power), 8 OPT

## LH0044H
designator IC?, comment OP AMP
footprint TO99
pins: 1 CMP1, 2 -IN, 3 +IN, 4 V- (power), 6 OUT (out), 7 V+ (power), 8 CMP2

## LM12
designator IC?, comment Power OP AMP
footprint K04A
pins: 1 -IN, 2 +IN, 3 V+ (power), 4 OUT (out), 5 5/ V- (power)

## LM50
designator IC?, comment SOT-23 Single-Supply Centigrade Temperature Sensor   Vout = (10mV/°C x Temp °C) +5mmmV Source: http://cache.national.com/ds/LM/LM50.pdf
footprint SOT23
pins: 1 +VS, 2 VO, 3 GND (power)

## LM101D
designator IC?, comment OP AMP
footprint SO08
pins: 1 ON1, 2 -IN, 3 +IN, 4 V- (power), 5 OPT, 6 OUT (out), 7 V+ (power), 8 ON2

## LM101N
designator IC?, comment OP AMP
footprint DIL08
pins: 1 ON1, 2 -IN, 3 +IN, 4 V- (power), 5 OPT, 6 OUT (out), 7 V+ (power), 8 ON2

## LM201D
designator IC?, comment OP AMP
footprint SO08
pins: 1 ON/CMP, 2 -IN, 3 +IN, 4 V- (power), 5 ON, 6 OUT (out), 7 V+ (power), 8 CMP

## LM201H
designator IC?, comment OP AMP
footprint TO99
pins: 1 ON/CMP, 2 -IN, 3 +IN, 4 V- (power), 5 ON, 6 OUT (out), 7 V+ (power), 8 CMP

## LM301D
designator IC?, comment OP AMP
footprint SO08
pins: 1 ON/CMP, 2 -IN, 3 +IN, 4 V- (power), 5 ON, 6 OUT (out), 7 V+ (power), 8 CMP

## LM301H
designator IC?, comment OP AMP
footprint DIL08
pins: 1 ON/CMP, 2 -IN, 3 +IN, 4 V- (power), 5 ON, 6 OUT (out), 7 V+ (power), 8 CMP

## LM307D
designator IC?, comment OP AMP
footprint SO08
pins: 2 -IN, 3 +IN, 4 V- (power), 6 OUT (out), 7 V+ (power)

## LM307N
designator IC?, comment OP AMP
footprint DIL08
pins: 2 -IN, 3 +IN, 4 V- (power), 6 OUT (out), 7 V+ (power)

## LM308D
designator IC?, comment OP AMP
footprint SO08
pins: 1 CMP1, 2 -IN, 3 +IN, 4 V- (power), 6 OUT (out), 7 V+ (power), 8 CMP2

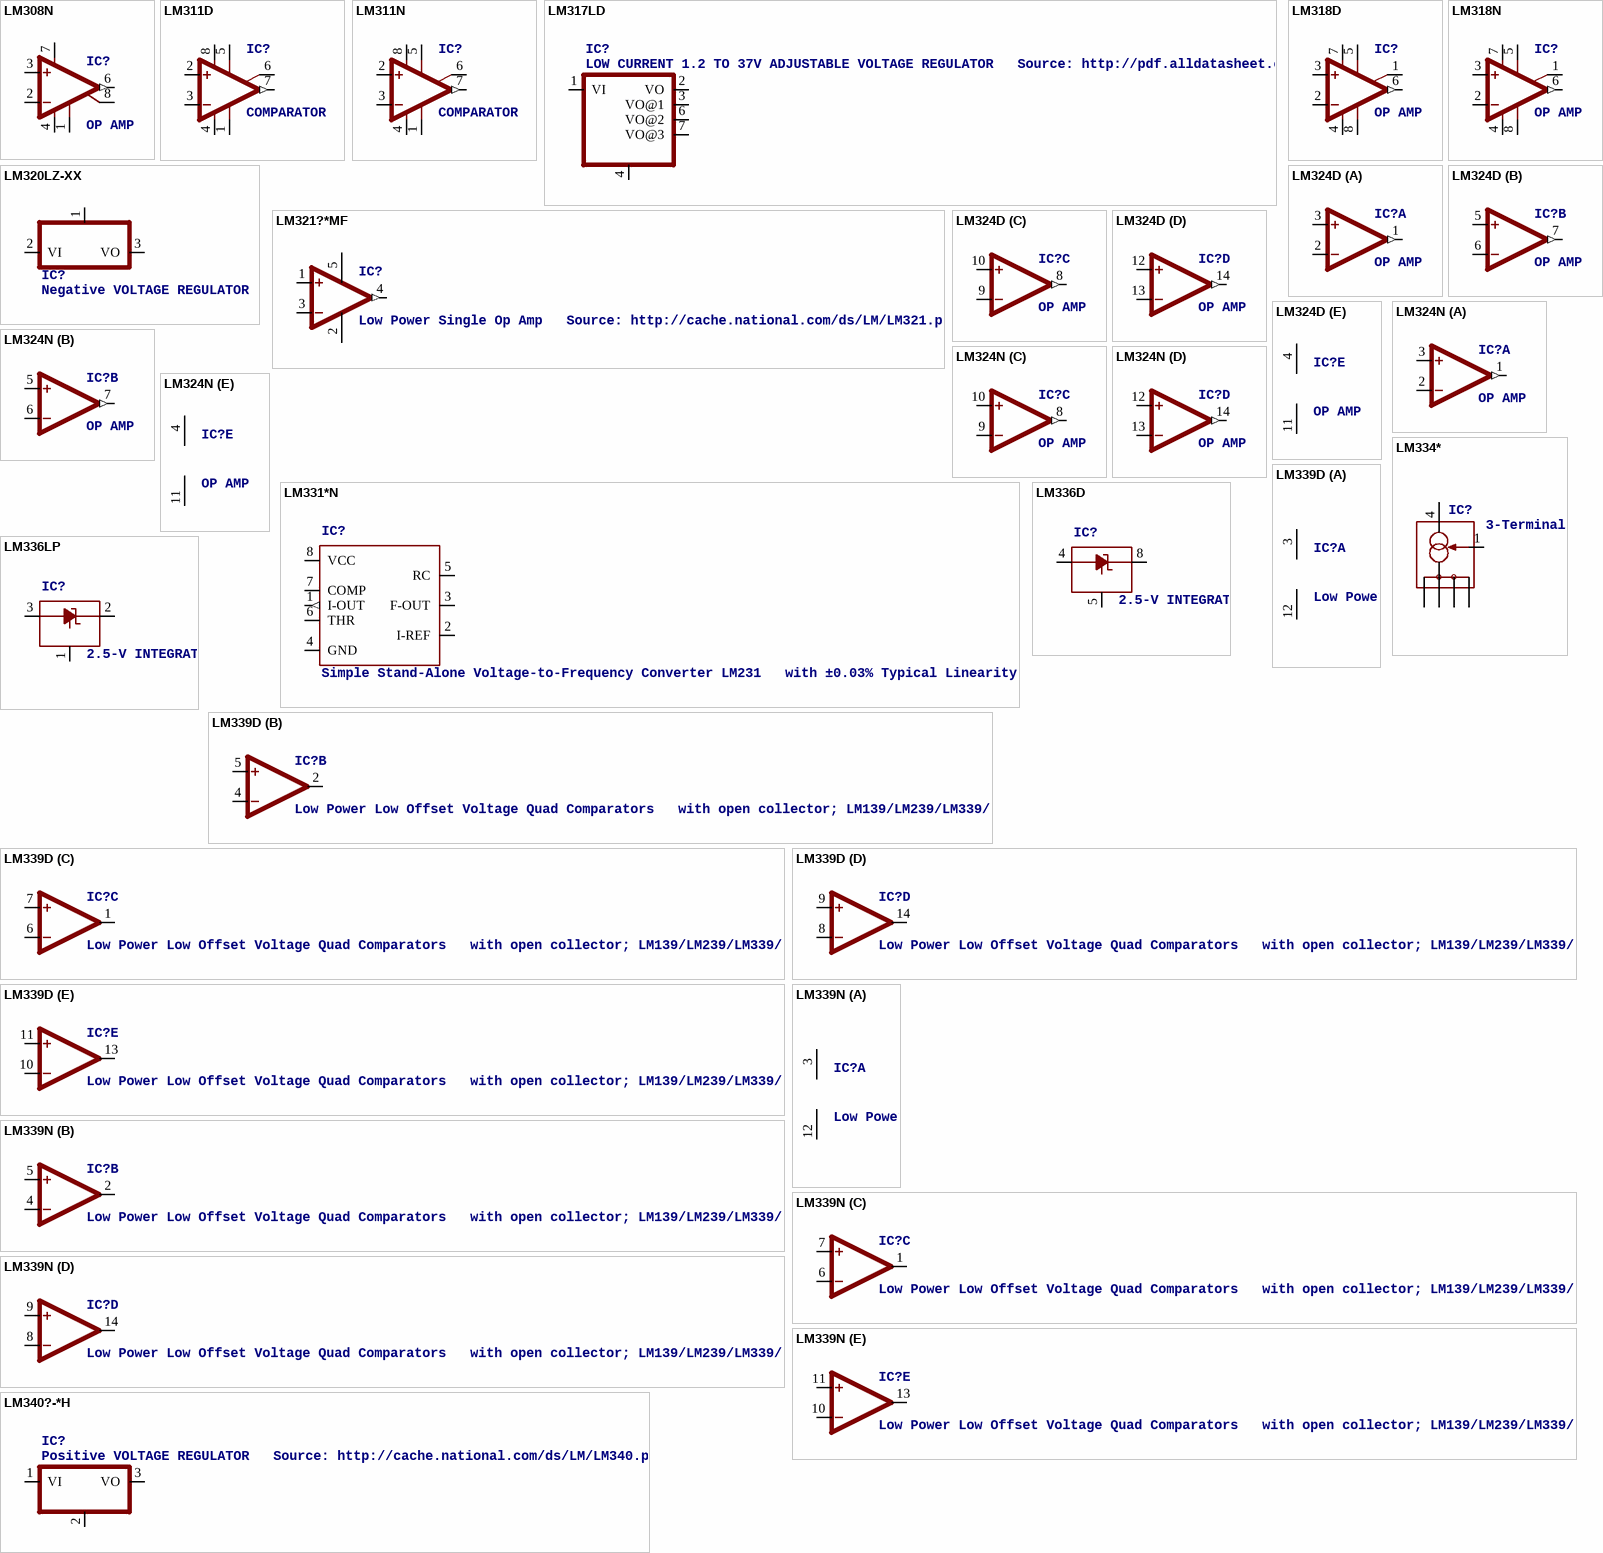
[diagram p14: symbols LM308N to LM340?-*H]

## LM308N
designator IC?, comment OP AMP
footprint DIL08
pins: 1 CMP1, 2 -IN, 3 +IN, 4 V- (power), 6 OUT (out), 7 V+ (power), 8 CMP2

## LM311D
designator IC?, comment COMPARATOR
footprint SO08
pins: 1 GND, 2 +IN, 3 -IN, 4 V- (power), 5 ON, 6 ON/STR, 7 OUT (out), 8 V+ (power)

## LM311N
designator IC?, comment COMPARATOR
footprint DIL08
pins: 1 GND, 2 +IN, 3 -IN, 4 V- (power), 5 ON, 6 ON/STR, 7 OUT (out), 8 V+ (power)

## LM317LD
designator IC?, comment LOW CURRENT 1.2 TO 37V ADJUSTABLE VOLTAGE REGULATOR   Source: http://pdf.alldatasheet.com
footprint SO08
pins: 1 VI, 2 VO, 3 VO@1, 4 ADJ, 6 VO@2, 7 VO@3

## LM318D
designator IC?, comment OP AMP
footprint SO08
pins: 1 ON/CMP, 2 -IN, 3 +IN, 4 V- (power), 5 ON, 6 OUT (out), 7 V+ (power), 8 CMP

## LM318N
designator IC?, comment OP AMP
footprint DIL08
pins: 1 ON/CMP, 2 -IN, 3 +IN, 4 V- (power), 5 ON, 6 OUT (out), 7 V+ (power), 8 CMP

## LM320LZ-XX
designator IC?, comment Negative VOLTAGE REGULATOR
footprint TO92
pins: 1 GND, 2 VI, 3 VO

## LM321?*MF
designator IC?, comment Low Power Single Op Amp   Source: http://cache.national.com/ds/LM/LM321.pdf
footprint SOT23-5
pins: 1 +IN, 2 V- (power), 3 -IN, 4 OUT (out), 5 V+ (power)

## LM324D
designator IC?, comment OP AMP
footprint SO14
part A pins: 1 OUT (out), 2 -IN, 3 +IN
part B pins: 5 +IN, 6 -IN, 7 OUT (out)
part C pins: 8 OUT (out), 9 -IN, 10 +IN
part D pins: 12 +IN, 13 -IN, 14 OUT (out)
part E pins: 4 V+ (power), 11 V- (power)

## LM324N
designator IC?, comment OP AMP
footprint DIL14
part A pins: 1 OUT (out), 2 -IN, 3 +IN
part B pins: 5 +IN, 6 -IN, 7 OUT (out)
part C pins: 8 OUT (out), 9 -IN, 10 +IN
part D pins: 12 +IN, 13 -IN, 14 OUT (out)
part E pins: 4 V+ (power), 11 V- (power)

## LM331*N
designator IC?, comment Simple Stand-Alone Voltage-to-Frequency Converter LM231   with ±0.03% Typical Linearity (f = 10 Hz to 11 kHz)
footprint DIL08
pins: 1 I-OUT (out), 2 I-REF, 3 F-OUT (oc), 4 GND (power), 5 RC, 6 THR, 7 COMP, 8 VCC (power)

## LM334*
designator IC?, comment 3-Terminal Adjustable Current Sources Source: www.national.com/pf/LM/LM334.html | LM134.pdf
footprint SO08
pins: 1 R, 2 V-, 3 V-@1, 4 V+, 6 V-@2, 7 V-@3

## LM336D
designator IC?, comment 2.5-V INTEGRATED REFERENCE CIRCUITS   LM236 Source: http://focus.ti.com/lit/ds/symlink/lm336-2.5.pdf
footprint SO08
pins: 4 A, 5 ADJ, 8 C

## LM336LP
designator IC?, comment 2.5-V INTEGRATED REFERENCE CIRCUITS   LM236 Source: http://focus.ti.com/lit/ds/symlink/lm336-2.5.pdf
footprint TO92
pins: 1 ADJ, 2 C, 3 A